# Altium schematic symbol library 74xx.SchLib: 276 symbols (part 1 of 3)
Pins are listed as number, name and electrical type; pins without a type are passive.

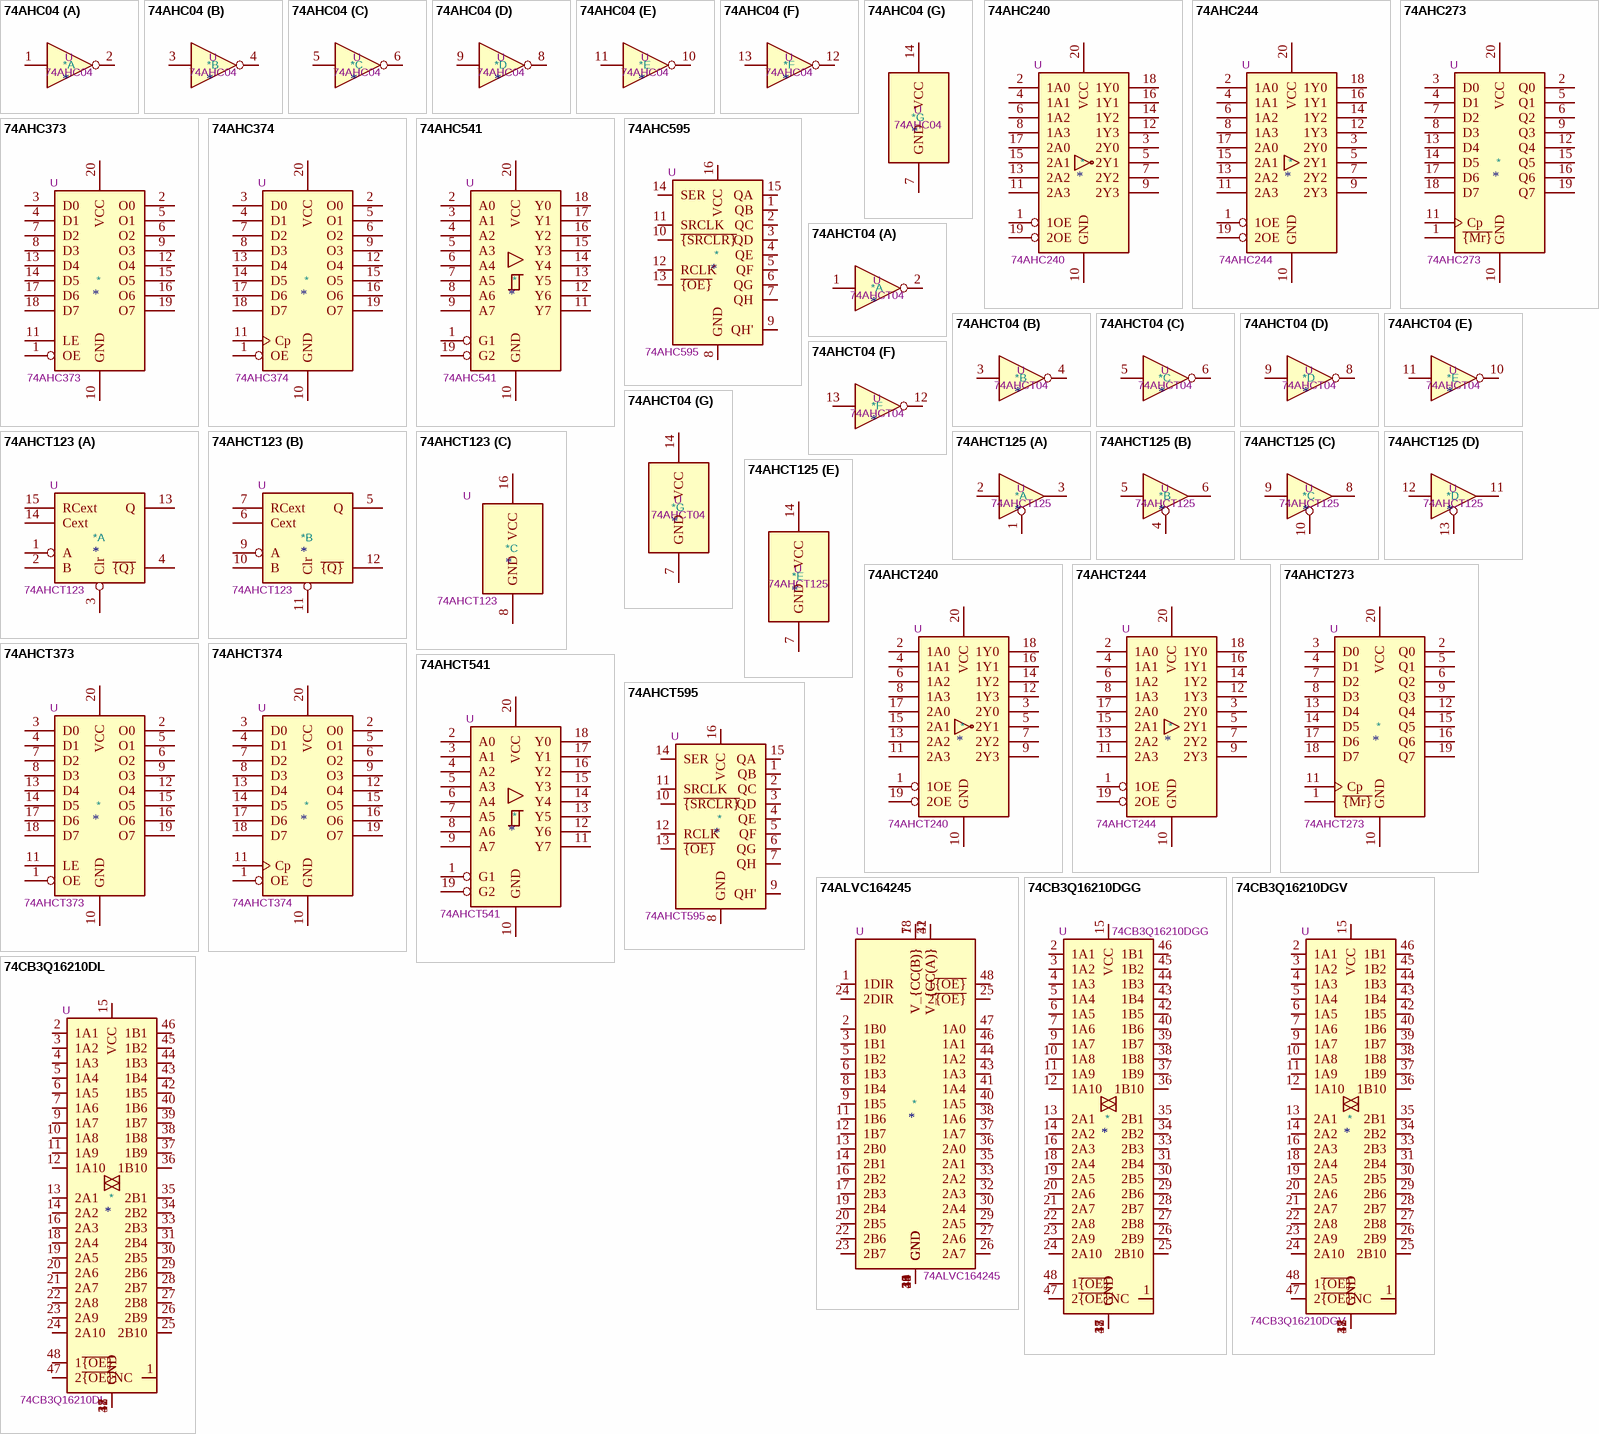
[diagram p0: symbols 74AHC04 to 74CB3Q16210DL]

## 74AHC04
designator *  value 74AHC04  Reference: U
Hex Inverter; ki_keywords: AHCMOS not inv; ki_fp_filters: DIP*W7.62mm* SSOP?14* TSSOP?14*; Datasheet: https://assets.nexperia.com/documents/data-sheet/74AHC_AHCT04.pdf; Description_: Hex Inverter
part A pins: 1, 2
part B pins: 3, 4
part C pins: 5, 6
part D pins: 8, 9
part E pins: 10, 11
part F pins: 12, 13
part G pins: 7 GND, 14 VCC

## 74AHC240
designator *  value 74AHC240  Reference: U
8-bit Buffer/Line Driver 3-state Inverting; ki_keywords: AHCMOS BUFFER 3State inv; ki_fp_filters: DIP*W7.62mm* SOIC*7.5x12.8mm*P1.27mm* TSSOP*4.4x6.5mm*P0.65mm* SSOP*4.4x6.5mm*P0.65mm*; Datasheet: https://www.ti.com/lit/ds/symlink/sn54ahc240.pdf; Description_: 8-bit Buffer/Line Driver 3-state Inverting
pins: 1 1OE, 2 1A0, 3 2Y0, 4 1A1, 5 2Y1, 6 1A2, 7 2Y2, 8 1A3, 9 2Y3, 10 GND, 11 2A3, 12 1Y3, 13 2A2, 14 1Y2, 15 2A1, 16 1Y1, 17 2A0, 18 1Y0, 19 2OE, 20 VCC

## 74AHC244
designator *  value 74AHC244  Reference: U
8-bit Buffer/Line Driver 3-state; ki_keywords: AHCMOS BUFFER 3State; ki_fp_filters: TSSOP*4.4x6.5mm*P0.65mm* SSOP*4.4x6.5mm*P0.65mm*; Datasheet: https://assets.nexperia.com/documents/data-sheet/74AHC_AHCT244.pdf; Description_: 8-bit Buffer/Line Driver 3-state
pins: 1 1OE, 2 1A0, 3 2Y0, 4 1A1, 5 2Y1, 6 1A2, 7 2Y2, 8 1A3, 9 2Y3, 10 GND, 11 2A3, 12 1Y3, 13 2A2, 14 1Y2, 15 2A1, 16 1Y1, 17 2A0, 18 1Y0, 19 2OE, 20 VCC

## 74AHC273
designator *  value 74AHC273  Reference: U
8-bit D Flip-Flop, reset; ki_keywords: AHCMOS DFF DFF8; ki_fp_filters: DIP?20* SO?20* SOIC?20*; Datasheet: https://assets.nexperia.com/documents/data-sheet/74AHC_AHCT273.pdf; Description_: 8-bit D Flip-Flop, reset
pins: 1 ~{{Mr}}, 2 Q0, 3 D0, 4 D1, 5 Q1, 6 Q2, 7 D2, 8 D3, 9 Q3, 10 GND, 11 Cp, 12 Q4, 13 D4, 14 D5, 15 Q5, 16 Q6, 17 D6, 18 D7, 19 Q7, 20 VCC

## 74AHC373
designator *  value 74AHC373  Reference: U
8-bit Latch, 3-state outputs; ki_keywords: AHCMOS REG DFF DFF8 LATCH; ki_fp_filters: DIP?20* SOIC?20* SO?20* SSOP?20* TSSOP?20*; Datasheet: https://assets.nexperia.com/documents/data-sheet/74AHC373.pdf; Description_: 8-bit Latch, 3-state outputs
pins: 1 OE, 2 O0, 3 D0, 4 D1, 5 O1, 6 O2, 7 D2, 8 D3, 9 O3, 10 GND, 11 LE, 12 O4, 13 D4, 14 D5, 15 O5, 16 O6, 17 D6, 18 D7, 19 O7, 20 VCC

## 74AHC374
designator *  value 74AHC374  Reference: U
8-bit Register, 3-state outputs; ki_keywords: AHCMOS DFF DFF8 REG 3State; ki_fp_filters: DIP?20* SOIC?20* SO?20*; Datasheet: https://assets.nexperia.com/documents/data-sheet/74AHC_AHCT374.pdf; Description_: 8-bit Register, 3-state outputs
pins: 1 OE, 2 O0, 3 D0, 4 D1, 5 O1, 6 O2, 7 D2, 8 D3, 9 O3, 10 GND, 11 Cp, 12 O4, 13 D4, 14 D5, 15 O5, 16 O6, 17 D6, 18 D7, 19 O7, 20 VCC

## 74AHC541
designator *  value 74AHC541  Reference: U
8-bit Buffer/Line Driver 3-state outputs; ki_keywords: TTL BUFFER 3State BUS; ki_fp_filters: DIP?20* SOIC*7.5x12.8mm*P1.27mm* TSSOP*4.4x6.5mm*P0.65mm* SSOP*4.4x6.5mm*P0.65mm*; Datasheet: https://www.ti.com/lit/ds/symlink/sn74ahc541.pdf; Description_: 8-bit Buffer/Line Driver 3-state outputs
pins: 1 G1, 2 A0, 3 A1, 4 A2, 5 A3, 6 A4, 7 A5, 8 A6, 9 A7, 10 GND, 11 Y7, 12 Y6, 13 Y5, 14 Y4, 15 Y3, 16 Y2, 17 Y1, 18 Y0, 19 G2, 20 VCC

## 74AHC595
designator *  value 74AHC595  Reference: U
8-bit serial in/out Shift Register 3-State Outputs; ki_keywords: AHCMOS SR 3State; ki_fp_filters: DIP*W7.62mm* SOIC*3.9x9.9mm*P1.27mm* TSSOP*4.4x5mm*P0.65mm* SOIC*5.3x10.2mm*P1.27mm* SOIC*7.5x10.3mm*P1.27mm*; Datasheet: https://assets.nexperia.com/documents/data-sheet/74AHC_AHCT595.pdf; Description_: 8-bit serial in/out Shift Register 3-State Outputs
pins: 1 QB, 2 QC, 3 QD, 4 QE, 5 QF, 6 QG, 7 QH, 8 GND, 9 QH', 10 ~{{SRCLR}}, 11 SRCLK, 12 RCLK, 13 ~{{OE}}, 14 SER, 15 QA, 16 VCC

## 74AHCT04
designator *  value 74AHCT04  Reference: U
Hex Inverter; ki_keywords: AHCTMOS not inv; ki_fp_filters: DIP*W7.62mm* SSOP?14* TSSOP?14*; Datasheet: https://assets.nexperia.com/documents/data-sheet/74AHC_AHCT04.pdf; Description_: Hex Inverter
part A pins: 1, 2
part B pins: 3, 4
part C pins: 5, 6
part D pins: 8, 9
part E pins: 10, 11
part F pins: 12, 13
part G pins: 7 GND, 14 VCC

## 74AHCT123
designator *  value 74AHCT123  Reference: U
Dual retriggerable monostable multivibrator; ki_keywords: TTL monostable, multivibrator; ki_fp_filters: DIP?16*; Datasheet: http://www.ti.com/lit/gpn/sn74ahct123a; Description_: Dual retriggerable monostable multivibrator
part A pins: 1 A, 2 B, 3 Clr, 4 ~{{Q}}, 13 Q, 14 Cext, 15 RCext
part B pins: 5 Q, 6 Cext, 7 RCext, 9 A, 10 B, 11 Clr, 12 ~{{Q}}
part C pins: 8 GND, 16 VCC

## 74AHCT125
designator *  value 74AHCT125  Reference: U
Quadruple Bus Buffer Gates With 3-State Outputs; ki_keywords: buffer 3State; ki_fp_filters: DIP*W7.62mm* SO14* SSOP?14* TSSOP?14* SOIC*3.9x8.7mm*P1.27mm*; Datasheet: https://www.ti.com/lit/ds/symlink/sn74ahct125.pdf; Description_: Quadruple Bus Buffer Gates With 3-State Outputs
part A pins: 1, 2, 3
part B pins: 4, 5, 6
part C pins: 8, 9, 10
part D pins: 11, 12, 13
part E pins: 7 GND, 14 VCC

## 74AHCT240
designator *  value 74AHCT240  Reference: U
8-bit Buffer/Line Driver 3-state Inverting; ki_keywords: AHCTMOS BUFFER 3State inv; ki_fp_filters: DIP*W7.62mm* SOIC*7.5x12.8mm*P1.27mm* TSSOP*4.4x6.5mm*P0.65mm* SSOP*4.4x6.5mm*P0.65mm*; Datasheet: https://assets.nexperia.com/documents/data-sheet/74AHCT240.pdf; Description_: 8-bit Buffer/Line Driver 3-state Inverting
pins: 1 1OE, 2 1A0, 3 2Y0, 4 1A1, 5 2Y1, 6 1A2, 7 2Y2, 8 1A3, 9 2Y3, 10 GND, 11 2A3, 12 1Y3, 13 2A2, 14 1Y2, 15 2A1, 16 1Y1, 17 2A0, 18 1Y0, 19 2OE, 20 VCC

## 74AHCT244
designator *  value 74AHCT244  Reference: U
8-bit Buffer/Line Driver 3-state; ki_keywords: AHCTMOS BUFFER 3State; ki_fp_filters: TSSOP*4.4x6.5mm*P0.65mm* SSOP*4.4x6.5mm*P0.65mm*; Datasheet: https://assets.nexperia.com/documents/data-sheet/74AHC_AHCT244.pdf; Description_: 8-bit Buffer/Line Driver 3-state
pins: 1 1OE, 2 1A0, 3 2Y0, 4 1A1, 5 2Y1, 6 1A2, 7 2Y2, 8 1A3, 9 2Y3, 10 GND, 11 2A3, 12 1Y3, 13 2A2, 14 1Y2, 15 2A1, 16 1Y1, 17 2A0, 18 1Y0, 19 2OE, 20 VCC

## 74AHCT273
designator *  value 74AHCT273  Reference: U
8-bit D Flip-Flop, reset; ki_keywords: AHCTMOS DFF DFF8; ki_fp_filters: DIP?20* SO?20* SOIC?20*; Datasheet: https://assets.nexperia.com/documents/data-sheet/74AHC_AHCT273.pdf; Description_: 8-bit D Flip-Flop, reset
pins: 1 ~{{Mr}}, 2 Q0, 3 D0, 4 D1, 5 Q1, 6 Q2, 7 D2, 8 D3, 9 Q3, 10 GND, 11 Cp, 12 Q4, 13 D4, 14 D5, 15 Q5, 16 Q6, 17 D6, 18 D7, 19 Q7, 20 VCC

## 74AHCT373
designator *  value 74AHCT373  Reference: U
8-bit Latch, 3-state outputs; ki_keywords: AHCTMOS REG DFF DFF8 LATCH; ki_fp_filters: DIP?20* SOIC?20* SO?20* SSOP?20* TSSOP?20*; Datasheet: https://www.ti.com/lit/ds/symlink/sn74ahct373.pdf; Description_: 8-bit Latch, 3-state outputs
pins: 1 OE, 2 O0, 3 D0, 4 D1, 5 O1, 6 O2, 7 D2, 8 D3, 9 O3, 10 GND, 11 LE, 12 O4, 13 D4, 14 D5, 15 O5, 16 O6, 17 D6, 18 D7, 19 O7, 20 VCC

## 74AHCT374
designator *  value 74AHCT374  Reference: U
8-bit Register, 3-state outputs; ki_keywords: AHCTMOS DFF DFF8 REG 3State; ki_fp_filters: DIP?20* SOIC?20* SO?20*; Datasheet: https://assets.nexperia.com/documents/data-sheet/74AHC_AHCT374.pdf; Description_: 8-bit Register, 3-state outputs
pins: 1 OE, 2 O0, 3 D0, 4 D1, 5 O1, 6 O2, 7 D2, 8 D3, 9 O3, 10 GND, 11 Cp, 12 O4, 13 D4, 14 D5, 15 O5, 16 O6, 17 D6, 18 D7, 19 O7, 20 VCC

## 74AHCT541
designator *  value 74AHCT541  Reference: U
8-bit Buffer/Line Driver 3-state outputs; ki_keywords: TTL BUFFER 3State BUS; ki_fp_filters: DIP?20* SOIC*7.5x12.8mm*P1.27mm* TSSOP*4.4x6.5mm*P0.65mm* SSOP*4.4x6.5mm*P0.65mm*; Datasheet: https://www.ti.com/lit/ds/symlink/sn74ahct541.pdf; Description_: 8-bit Buffer/Line Driver 3-state outputs
pins: 1 G1, 2 A0, 3 A1, 4 A2, 5 A3, 6 A4, 7 A5, 8 A6, 9 A7, 10 GND, 11 Y7, 12 Y6, 13 Y5, 14 Y4, 15 Y3, 16 Y2, 17 Y1, 18 Y0, 19 G2, 20 VCC

## 74AHCT595
designator *  value 74AHCT595  Reference: U
8-bit serial in/out Shift Register 3-State Outputs; ki_keywords: AHCTMOS SR 3State; ki_fp_filters: DIP*W7.62mm* SOIC*3.9x9.9mm*P1.27mm* TSSOP*4.4x5mm*P0.65mm* SOIC*5.3x10.2mm*P1.27mm* SOIC*7.5x10.3mm*P1.27mm*; Datasheet: https://assets.nexperia.com/documents/data-sheet/74AHC_AHCT595.pdf; Description_: 8-bit serial in/out Shift Register 3-State Outputs
pins: 1 QB, 2 QC, 3 QD, 4 QE, 5 QF, 6 QG, 7 QH, 8 GND, 9 QH', 10 ~{{SRCLR}}, 11 SRCLK, 12 RCLK, 13 ~{{OE}}, 14 SER, 15 QA, 16 VCC

## 74ALVC164245
designator *  value 74ALVC164245  Reference: U
16-Bit 2.5V to 3.3V or 3.3V to 5V Level-Shifting Transceiver With 3-State Outputs, TSSOP-48; ki_fp_filters: TSSOP*6.1x12.5mm*P0.5mm*; Footprint: Package_SO:TSSOP-48_6.1x12.5mm_P0.5mm; Datasheet: https://assets.nexperia.com/documents/data-sheet/74ALVC164245.pdf; Description_: 16-Bit 2.5V to 3.3V or 3.3V to 5V Level-Shifting Transceiver With 3-State Outputs, TSSOP-48; ki_keywords: transceiver
pins: 1 1DIR, 2 1B0, 3 1B1, 4 GND, 5 1B2, 6 1B3, 7 V_{CC(B)}, 8 1B4, 9 1B5, 10 GND, 11 1B6, 12 1B7, 13 2B0, 14 2B1, 15 GND, 16 2B2, 17 2B3, 18 V_{CC(B)}, 19 2B4, 20 2B5, 21 GND, 22 2B6, 23 2B7, 24 2DIR, 25 2~{{OE}}, 26 2A7, 27 2A6, 28 GND, 29 2A5, 30 2A4, 31 V_{CC(A)}, 32 2A3, 33 2A2, 34 GND, 35 2A1, 36 2A0, 37 1A7, 38 1A6, 39 GND, 40 1A5, 41 1A4, 42 V_{CC(A)}, 43 1A3, 44 1A2, 45 GND, 46 1A1, 47 1A0, 48 1~{{OE}}

## 74CB3Q16210DGG
designator *  value 74CB3Q16210DGG  Reference: U
20-bit FET bus switch with 10-bit output enables, TSSOP-48; ki_keywords: bus transmission gates fet switch bidirectional; ki_fp_filters: TSSOP*6.1x12.5mm*P0.5mm*; Footprint: Package_SO:TSSOP-48_6.1x12.5mm_P0.5mm; Datasheet: https://www.ti.com/lit/ds/symlink/sn74cb3q16210.pdf; Description_: 20-bit FET bus switch with 10-bit output enables, TSSOP-48
pins: 1 NC, 2 1A1, 3 1A2, 4 1A3, 5 1A4, 6 1A5, 7 1A6, 8 GND, 9 1A7, 10 1A8, 11 1A9, 12 1A10, 13 2A1, 14 2A2, 15 VCC, 16 2A3, 17 GND, 18 2A4, 19 2A5, 20 2A6, 21 2A7, 22 2A8, 23 2A9, 24 2A10, 25 2B10, 26 2B9, 27 2B8, 28 2B7, 29 2B6, 30 2B5, 31 2B4, 32 GND, 33 2B3, 34 2B2, 35 2B1, 36 1B10, 37 1B9, 38 1B8, 39 1B7, 40 1B6, 41 GND, 42 1B5, 43 1B4, 44 1B3, 45 1B2, 46 1B1, 47 2~{{OE}}, 48 1~{{OE}}

## 74CB3Q16210DGV
designator *  value 74CB3Q16210DGV  Reference: U
20-bit FET bus switch with 10-bit output enables, TVSOP-48; ki_keywords: bus transmission gates fet switch bidirectional; ki_fp_filters: TSSOP*4.4x9.7mm*P0.4mm*; Footprint: Package_SO:TSSOP-48_4.4x9.7mm_P0.4mm; Datasheet: https://www.ti.com/lit/ds/symlink/sn74cb3q16210.pdf; Description_: 20-bit FET bus switch with 10-bit output enables, TVSOP-48
pins: 1 NC, 2 1A1, 3 1A2, 4 1A3, 5 1A4, 6 1A5, 7 1A6, 8 GND, 9 1A7, 10 1A8, 11 1A9, 12 1A10, 13 2A1, 14 2A2, 15 VCC, 16 2A3, 17 GND, 18 2A4, 19 2A5, 20 2A6, 21 2A7, 22 2A8, 23 2A9, 24 2A10, 25 2B10, 26 2B9, 27 2B8, 28 2B7, 29 2B6, 30 2B5, 31 2B4, 32 GND, 33 2B3, 34 2B2, 35 2B1, 36 1B10, 37 1B9, 38 1B8, 39 1B7, 40 1B6, 41 GND, 42 1B5, 43 1B4, 44 1B3, 45 1B2, 46 1B1, 47 2~{{OE}}, 48 1~{{OE}}

## 74CB3Q16210DL
designator *  value 74CB3Q16210DL  Reference: U
20-bit FET bus switch with 10-bit output enables, SSOP-48; ki_keywords: bus transmission gates fet switch bidirectional; ki_fp_filters: SSOP*7.5x15.9mm*P0.635mm*; Footprint: Package_SO:SSOP-48_7.5x15.9mm_P0.635mm; Datasheet: https://www.ti.com/lit/ds/symlink/sn74cb3q16210.pdf; Description_: 20-bit FET bus switch with 10-bit output enables, SSOP-48
pins: 1 NC, 2 1A1, 3 1A2, 4 1A3, 5 1A4, 6 1A5, 7 1A6, 8 GND, 9 1A7, 10 1A8, 11 1A9, 12 1A10, 13 2A1, 14 2A2, 15 VCC, 16 2A3, 17 GND, 18 2A4, 19 2A5, 20 2A6, 21 2A7, 22 2A8, 23 2A9, 24 2A10, 25 2B10, 26 2B9, 27 2B8, 28 2B7, 29 2B6, 30 2B5, 31 2B4, 32 GND, 33 2B3, 34 2B2, 35 2B1, 36 1B10, 37 1B9, 38 1B8, 39 1B7, 40 1B6, 41 GND, 42 1B5, 43 1B4, 44 1B3, 45 1B2, 46 1B1, 47 2~{{OE}}, 48 1~{{OE}}

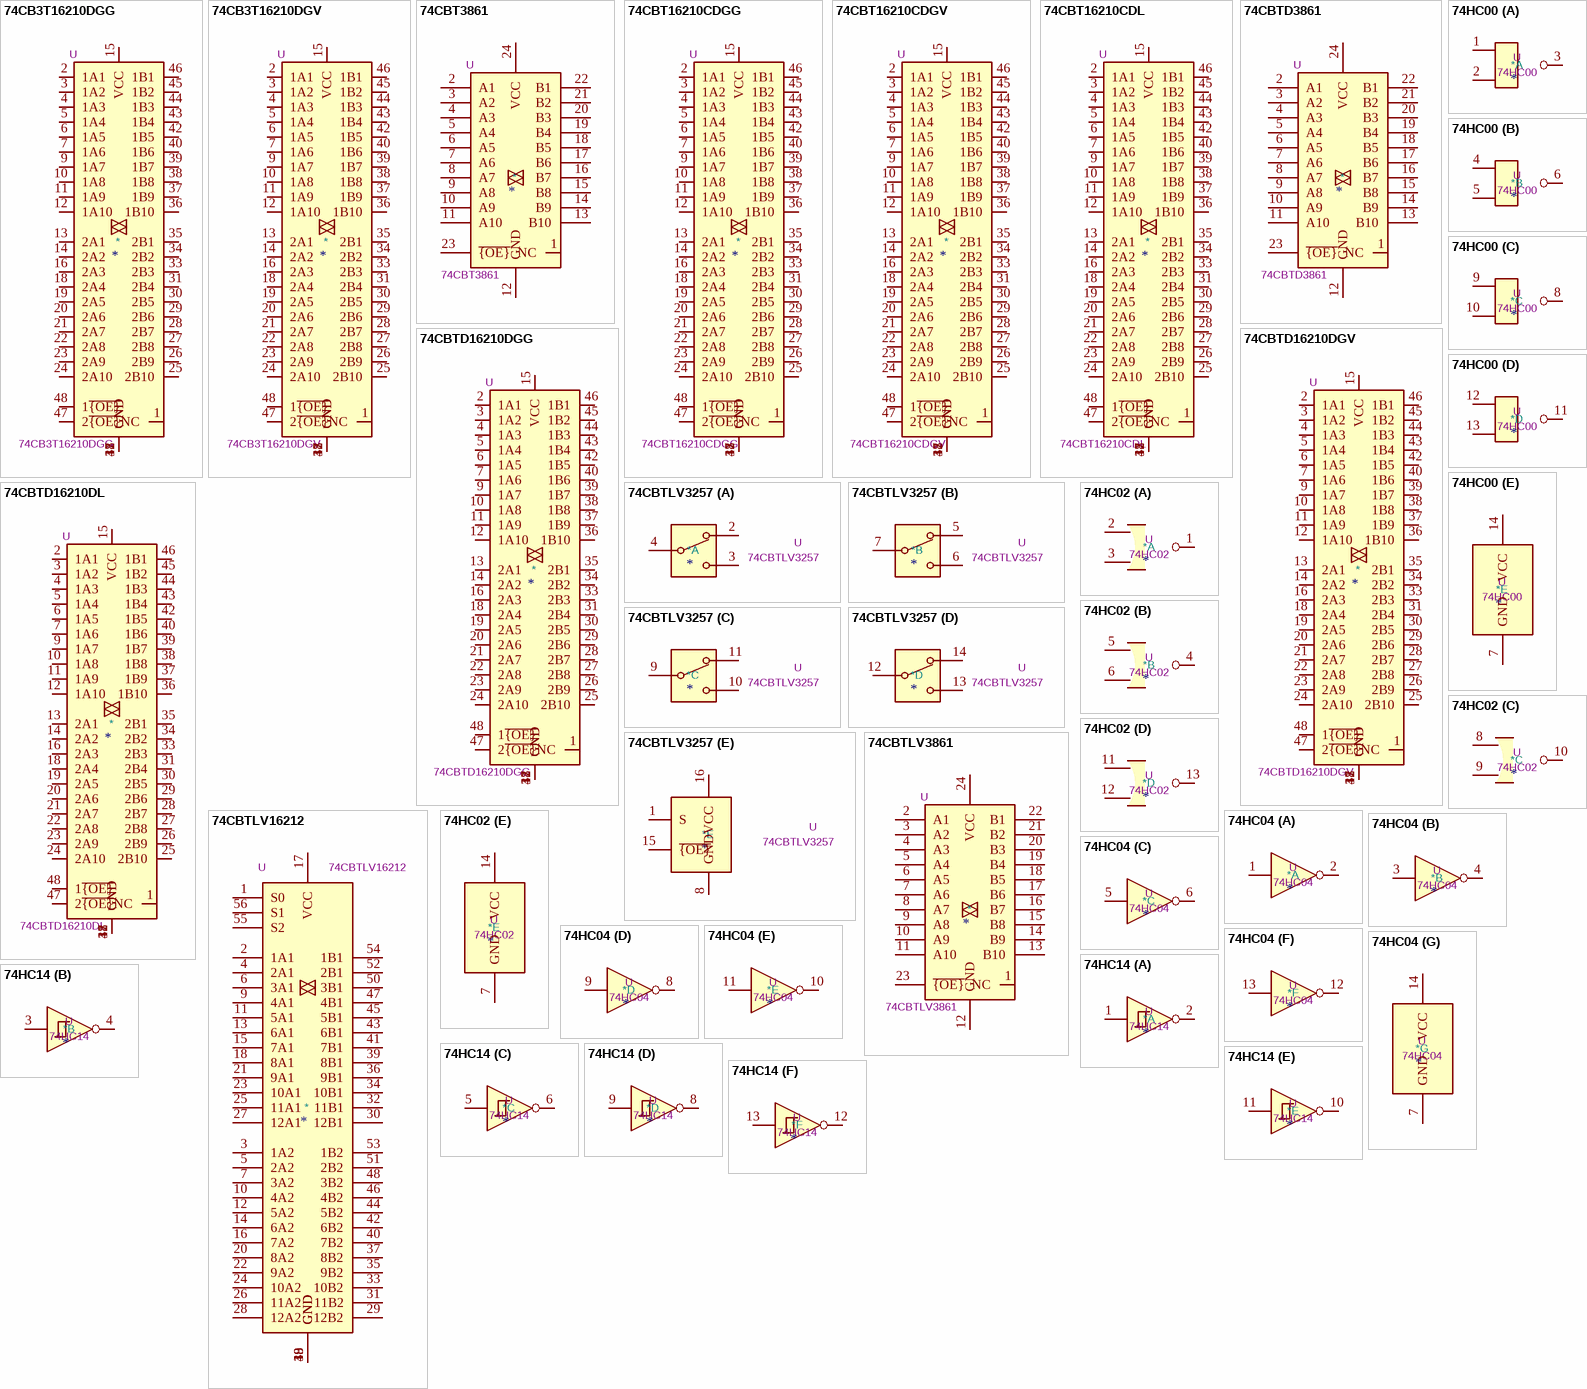
[diagram p1: symbols 74CB3T16210DGG to 74HC14]

## 74CB3T16210DGG
designator *  value 74CB3T16210DGG  Reference: U
20-bit FET bus switch with 10-bit output enables, TSSOP-48; ki_keywords: bus transmission gates fet switch bidirectional; ki_fp_filters: TSSOP*6.1x12.5mm*P0.5mm*; Footprint: Package_SO:TSSOP-48_6.1x12.5mm_P0.5mm; Datasheet: https://www.ti.com/lit/ds/symlink/sn74cb3t16210.pdf; Description_: 20-bit FET bus switch with 10-bit output enables, TSSOP-48
pins: 1 NC, 2 1A1, 3 1A2, 4 1A3, 5 1A4, 6 1A5, 7 1A6, 8 GND, 9 1A7, 10 1A8, 11 1A9, 12 1A10, 13 2A1, 14 2A2, 15 VCC, 16 2A3, 17 GND, 18 2A4, 19 2A5, 20 2A6, 21 2A7, 22 2A8, 23 2A9, 24 2A10, 25 2B10, 26 2B9, 27 2B8, 28 2B7, 29 2B6, 30 2B5, 31 2B4, 32 GND, 33 2B3, 34 2B2, 35 2B1, 36 1B10, 37 1B9, 38 1B8, 39 1B7, 40 1B6, 41 GND, 42 1B5, 43 1B4, 44 1B3, 45 1B2, 46 1B1, 47 2~{{OE}}, 48 1~{{OE}}

## 74CB3T16210DGV
designator *  value 74CB3T16210DGV  Reference: U
20-bit FET bus switch with 10-bit output enables, TVSOP-48; ki_keywords: bus transmission gates fet switch bidirectional; ki_fp_filters: TSSOP*4.4x9.7mm*P0.4mm*; Footprint: Package_SO:TSSOP-48_4.4x9.7mm_P0.4mm; Datasheet: https://www.ti.com/lit/ds/symlink/sn74cb3t16210.pdf; Description_: 20-bit FET bus switch with 10-bit output enables, TVSOP-48
pins: 1 NC, 2 1A1, 3 1A2, 4 1A3, 5 1A4, 6 1A5, 7 1A6, 8 GND, 9 1A7, 10 1A8, 11 1A9, 12 1A10, 13 2A1, 14 2A2, 15 VCC, 16 2A3, 17 GND, 18 2A4, 19 2A5, 20 2A6, 21 2A7, 22 2A8, 23 2A9, 24 2A10, 25 2B10, 26 2B9, 27 2B8, 28 2B7, 29 2B6, 30 2B5, 31 2B4, 32 GND, 33 2B3, 34 2B2, 35 2B1, 36 1B10, 37 1B9, 38 1B8, 39 1B7, 40 1B6, 41 GND, 42 1B5, 43 1B4, 44 1B3, 45 1B2, 46 1B1, 47 2~{{OE}}, 48 1~{{OE}}

## 74CBT3861
designator *  value 74CBT3861  Reference: U
10-bit FET bus switch; ki_fp_filters: DIP?24*; Datasheet: https://www.ti.com/lit/ds/symlink/sn74cbt3861.pdf; Description_: 10-bit FET bus switch; ki_keywords: bus
pins: 1 NC, 2 A1, 3 A2, 4 A3, 5 A4, 6 A5, 7 A6, 8 A7, 9 A8, 10 A9, 11 A10, 12 GND, 13 B10, 14 B9, 15 B8, 16 B7, 17 B6, 18 B5, 19 B4, 20 B3, 21 B2, 22 B1, 23 ~{{OE}}, 24 VCC

## 74CBT16210CDGG
designator *  value 74CBT16210CDGG  Reference: U
20-bit FET bus switch with 10-bit output enables, TSSOP-48; ki_keywords: bus transmission gates fet switch bidirectional; ki_fp_filters: TSSOP*6.1x12.5mm*P0.5mm*; Footprint: Package_SO:TSSOP-48_6.1x12.5mm_P0.5mm; Datasheet: https://www.ti.com/lit/ds/symlink/sn74cbt16210c.pdf; Description_: 20-bit FET bus switch with 10-bit output enables, TSSOP-48
pins: 1 NC, 2 1A1, 3 1A2, 4 1A3, 5 1A4, 6 1A5, 7 1A6, 8 GND, 9 1A7, 10 1A8, 11 1A9, 12 1A10, 13 2A1, 14 2A2, 15 VCC, 16 2A3, 17 GND, 18 2A4, 19 2A5, 20 2A6, 21 2A7, 22 2A8, 23 2A9, 24 2A10, 25 2B10, 26 2B9, 27 2B8, 28 2B7, 29 2B6, 30 2B5, 31 2B4, 32 GND, 33 2B3, 34 2B2, 35 2B1, 36 1B10, 37 1B9, 38 1B8, 39 1B7, 40 1B6, 41 GND, 42 1B5, 43 1B4, 44 1B3, 45 1B2, 46 1B1, 47 2~{{OE}}, 48 1~{{OE}}

## 74CBT16210CDGV
designator *  value 74CBT16210CDGV  Reference: U
20-bit FET bus switch with 10-bit output enables, TVSOP-48; ki_keywords: bus transmission gates fet switch bidirectional; ki_fp_filters: TSSOP*4.4x9.7mm*P0.4mm*; Footprint: Package_SO:TSSOP-48_4.4x9.7mm_P0.4mm; Datasheet: https://www.ti.com/lit/ds/symlink/sn74cbt16210c.pdf; Description_: 20-bit FET bus switch with 10-bit output enables, TVSOP-48
pins: 1 NC, 2 1A1, 3 1A2, 4 1A3, 5 1A4, 6 1A5, 7 1A6, 8 GND, 9 1A7, 10 1A8, 11 1A9, 12 1A10, 13 2A1, 14 2A2, 15 VCC, 16 2A3, 17 GND, 18 2A4, 19 2A5, 20 2A6, 21 2A7, 22 2A8, 23 2A9, 24 2A10, 25 2B10, 26 2B9, 27 2B8, 28 2B7, 29 2B6, 30 2B5, 31 2B4, 32 GND, 33 2B3, 34 2B2, 35 2B1, 36 1B10, 37 1B9, 38 1B8, 39 1B7, 40 1B6, 41 GND, 42 1B5, 43 1B4, 44 1B3, 45 1B2, 46 1B1, 47 2~{{OE}}, 48 1~{{OE}}

## 74CBT16210CDL
designator *  value 74CBT16210CDL  Reference: U
20-bit FET bus switch with 10-bit output enables, SSOP-48; ki_keywords: bus transmission gates fet switch bidirectional; ki_fp_filters: SSOP*7.5x15.9mm*P0.635mm*; Footprint: Package_SO:SSOP-48_7.5x15.9mm_P0.635mm; Datasheet: https://www.ti.com/lit/ds/symlink/sn74cbt16210c.pdf; Description_: 20-bit FET bus switch with 10-bit output enables, SSOP-48
pins: 1 NC, 2 1A1, 3 1A2, 4 1A3, 5 1A4, 6 1A5, 7 1A6, 8 GND, 9 1A7, 10 1A8, 11 1A9, 12 1A10, 13 2A1, 14 2A2, 15 VCC, 16 2A3, 17 GND, 18 2A4, 19 2A5, 20 2A6, 21 2A7, 22 2A8, 23 2A9, 24 2A10, 25 2B10, 26 2B9, 27 2B8, 28 2B7, 29 2B6, 30 2B5, 31 2B4, 32 GND, 33 2B3, 34 2B2, 35 2B1, 36 1B10, 37 1B9, 38 1B8, 39 1B7, 40 1B6, 41 GND, 42 1B5, 43 1B4, 44 1B3, 45 1B2, 46 1B1, 47 2~{{OE}}, 48 1~{{OE}}

## 74CBTD3861
designator *  value 74CBTD3861  Reference: U
10-bit FET Bus switch; ki_fp_filters: DIP?24*; Datasheet: https://www.ti.com/lit/ds/symlink/sn74cbtd3861.pdf; Description_: 10-bit FET Bus switch; ki_keywords: bus
pins: 1 NC, 2 A1, 3 A2, 4 A3, 5 A4, 6 A5, 7 A6, 8 A7, 9 A8, 10 A9, 11 A10, 12 GND, 13 B10, 14 B9, 15 B8, 16 B7, 17 B6, 18 B5, 19 B4, 20 B3, 21 B2, 22 B1, 23 ~{{OE}}, 24 VCC

## 74CBTD16210DGG
designator *  value 74CBTD16210DGG  Reference: U
20-bit FET bus switch with 10-bit output enables, TSSOP-48; ki_keywords: bus transmission gates fet switch bidirectional; ki_fp_filters: TSSOP*6.1x12.5mm*P0.5mm*; Footprint: Package_SO:TSSOP-48_6.1x12.5mm_P0.5mm; Datasheet: https://www.ti.com/lit/ds/symlink/sn74cbtd16210.pdf; Description_: 20-bit FET bus switch with 10-bit output enables, TSSOP-48
pins: 1 NC, 2 1A1, 3 1A2, 4 1A3, 5 1A4, 6 1A5, 7 1A6, 8 GND, 9 1A7, 10 1A8, 11 1A9, 12 1A10, 13 2A1, 14 2A2, 15 VCC, 16 2A3, 17 GND, 18 2A4, 19 2A5, 20 2A6, 21 2A7, 22 2A8, 23 2A9, 24 2A10, 25 2B10, 26 2B9, 27 2B8, 28 2B7, 29 2B6, 30 2B5, 31 2B4, 32 GND, 33 2B3, 34 2B2, 35 2B1, 36 1B10, 37 1B9, 38 1B8, 39 1B7, 40 1B6, 41 GND, 42 1B5, 43 1B4, 44 1B3, 45 1B2, 46 1B1, 47 2~{{OE}}, 48 1~{{OE}}

## 74CBTD16210DGV
designator *  value 74CBTD16210DGV  Reference: U
20-bit FET bus switch with 10-bit output enables, TVSOP-48; ki_keywords: bus transmission gates fet switch bidirectional; ki_fp_filters: TSSOP*4.4x9.7mm*P0.4mm*; Footprint: Package_SO:TSSOP-48_4.4x9.7mm_P0.4mm; Datasheet: https://www.ti.com/lit/ds/symlink/sn74cbtd16210.pdf; Description_: 20-bit FET bus switch with 10-bit output enables, TVSOP-48
pins: 1 NC, 2 1A1, 3 1A2, 4 1A3, 5 1A4, 6 1A5, 7 1A6, 8 GND, 9 1A7, 10 1A8, 11 1A9, 12 1A10, 13 2A1, 14 2A2, 15 VCC, 16 2A3, 17 GND, 18 2A4, 19 2A5, 20 2A6, 21 2A7, 22 2A8, 23 2A9, 24 2A10, 25 2B10, 26 2B9, 27 2B8, 28 2B7, 29 2B6, 30 2B5, 31 2B4, 32 GND, 33 2B3, 34 2B2, 35 2B1, 36 1B10, 37 1B9, 38 1B8, 39 1B7, 40 1B6, 41 GND, 42 1B5, 43 1B4, 44 1B3, 45 1B2, 46 1B1, 47 2~{{OE}}, 48 1~{{OE}}

## 74CBTD16210DL
designator *  value 74CBTD16210DL  Reference: U
20-bit FET bus switch with 10-bit output enables, SSOP-48; ki_keywords: bus transmission gates fet switch bidirectional; ki_fp_filters: SSOP*7.5x15.9mm*P0.635mm*; Footprint: Package_SO:SSOP-48_7.5x15.9mm_P0.635mm; Datasheet: https://www.ti.com/lit/ds/symlink/sn74cbtd16210.pdf; Description_: 20-bit FET bus switch with 10-bit output enables, SSOP-48
pins: 1 NC, 2 1A1, 3 1A2, 4 1A3, 5 1A4, 6 1A5, 7 1A6, 8 GND, 9 1A7, 10 1A8, 11 1A9, 12 1A10, 13 2A1, 14 2A2, 15 VCC, 16 2A3, 17 GND, 18 2A4, 19 2A5, 20 2A6, 21 2A7, 22 2A8, 23 2A9, 24 2A10, 25 2B10, 26 2B9, 27 2B8, 28 2B7, 29 2B6, 30 2B5, 31 2B4, 32 GND, 33 2B3, 34 2B2, 35 2B1, 36 1B10, 37 1B9, 38 1B8, 39 1B7, 40 1B6, 41 GND, 42 1B5, 43 1B4, 44 1B3, 45 1B2, 46 1B1, 47 2~{{OE}}, 48 1~{{OE}}

## 74CBTLV3257
designator *  value 74CBTLV3257  Reference: U
Quad 1:2 FET Multiplexer/Demultiplexer, Low-Voltage; ki_keywords: mux demux low-voltage; ki_fp_filters: SSOP*3.9x4.9mm*P0.635mm* TSSOP*4.4x5mm*P0.65mm* TVSOP*4.4x3.6mm*P0.4mm* SOIC*3.9x9.9mm*P1.27mm*; Datasheet: http://www.ti.com/lit/ds/symlink/sn74cbtlv3257.pdf; Description_: Quad 1:2 FET Multiplexer/Demultiplexer, Low-Voltage
part A pins: 2, 3, 4
part B pins: 5, 6, 7
part C pins: 9, 10, 11
part D pins: 12, 13, 14
part E pins: 1 S, 8 GND, 15 ~{{OE}}, 16 VCC

## 74CBTLV3861
designator *  value 74CBTLV3861  Reference: U
Low-voltage 10-bit FET bus switch; ki_fp_filters: DIP?24*; Datasheet: http://www.ti.com/lit/gpn/sn74cbtlv3861; Description_: Low-voltage 10-bit FET bus switch; ki_keywords: bus
pins: 1 NC, 2 A1, 3 A2, 4 A3, 5 A4, 6 A5, 7 A6, 8 A7, 9 A8, 10 A9, 11 A10, 12 GND, 13 B10, 14 B9, 15 B8, 16 B7, 17 B6, 18 B5, 19 B4, 20 B3, 21 B2, 22 B1, 23 ~{{OE}}, 24 VCC

## 74CBTLV16212
designator *  value 74CBTLV16212  Reference: U
Low-voltage 24-bit FET Bus-exchange switch; ki_keywords: bus; ki_fp_filters: SSOP* TSSOP*; Datasheet: https://www.ti.com/lit/ds/symlink/sn74cbtlv16212.pdf; Description_: Low-voltage 24-bit FET Bus-exchange switch
pins: 1 S0, 2 1A1, 3 1A2, 4 2A1, 5 2A2, 6 3A1, 7 3A2, 8 GND, 9 4A1, 10 4A2, 11 5A1, 12 5A2, 13 6A1, 14 6A2, 15 7A1, 16 7A2, 17 VCC, 18 8A1, 19 GND, 20 8A2, 21 9A1, 22 9A2, 23 10A1, 24 10A2, 25 11A1, 26 11A2, 27 12A1, 28 12A2, 29 12B2, 30 12B1, 31 11B2, 32 11B1, 33 10B2, 34 10B1, 35 9B2, 36 9B1, 37 8B2, 38 GND, 39 8B1, 40 7B2, 41 7B1, 42 6B2, 43 6B1, 44 5B2, 45 5B1, 46 4B2, 47 4B1, 48 3B2, 49 GND, 50 3B1, 51 2B2, 52 2B1, 53 1B2, 54 1B1, 55 S2, 56 S1

## 74HC00
designator *  value 74HC00  Reference: U
quad 2-input NAND gate; ki_keywords: HCMOS nand 2-input; ki_fp_filters: DIP*W7.62mm* SO14*; Datasheet: http://www.ti.com/lit/gpn/sn74hc00; Description_: quad 2-input NAND gate
part A pins: 1, 2, 3
part B pins: 4, 5, 6
part C pins: 8, 9, 10
part D pins: 11, 12, 13
part E pins: 7 GND, 14 VCC
1 alternate drawing of the same symbol

## 74HC02
designator *  value 74HC02  Reference: U
quad 2-input NOR gate; ki_keywords: HCMOS Nor2; ki_fp_filters: SO14* DIP*W7.62mm*; Datasheet: http://www.ti.com/lit/gpn/sn74hc02; Description_: quad 2-input NOR gate
part A pins: 1, 2, 3
part B pins: 4, 5, 6
part C pins: 8, 9, 10
part D pins: 11, 12, 13
part E pins: 7 GND, 14 VCC
1 alternate drawing of the same symbol

## 74HC04
designator *  value 74HC04  Reference: U
Hex Inverter; ki_keywords: HCMOS not inv; ki_fp_filters: DIP*W7.62mm* SSOP?14* TSSOP?14*; Datasheet: https://assets.nexperia.com/documents/data-sheet/74HC_HCT04.pdf; Description_: Hex Inverter
part A pins: 1, 2
part B pins: 3, 4
part C pins: 5, 6
part D pins: 8, 9
part E pins: 10, 11
part F pins: 12, 13
part G pins: 7 GND, 14 VCC

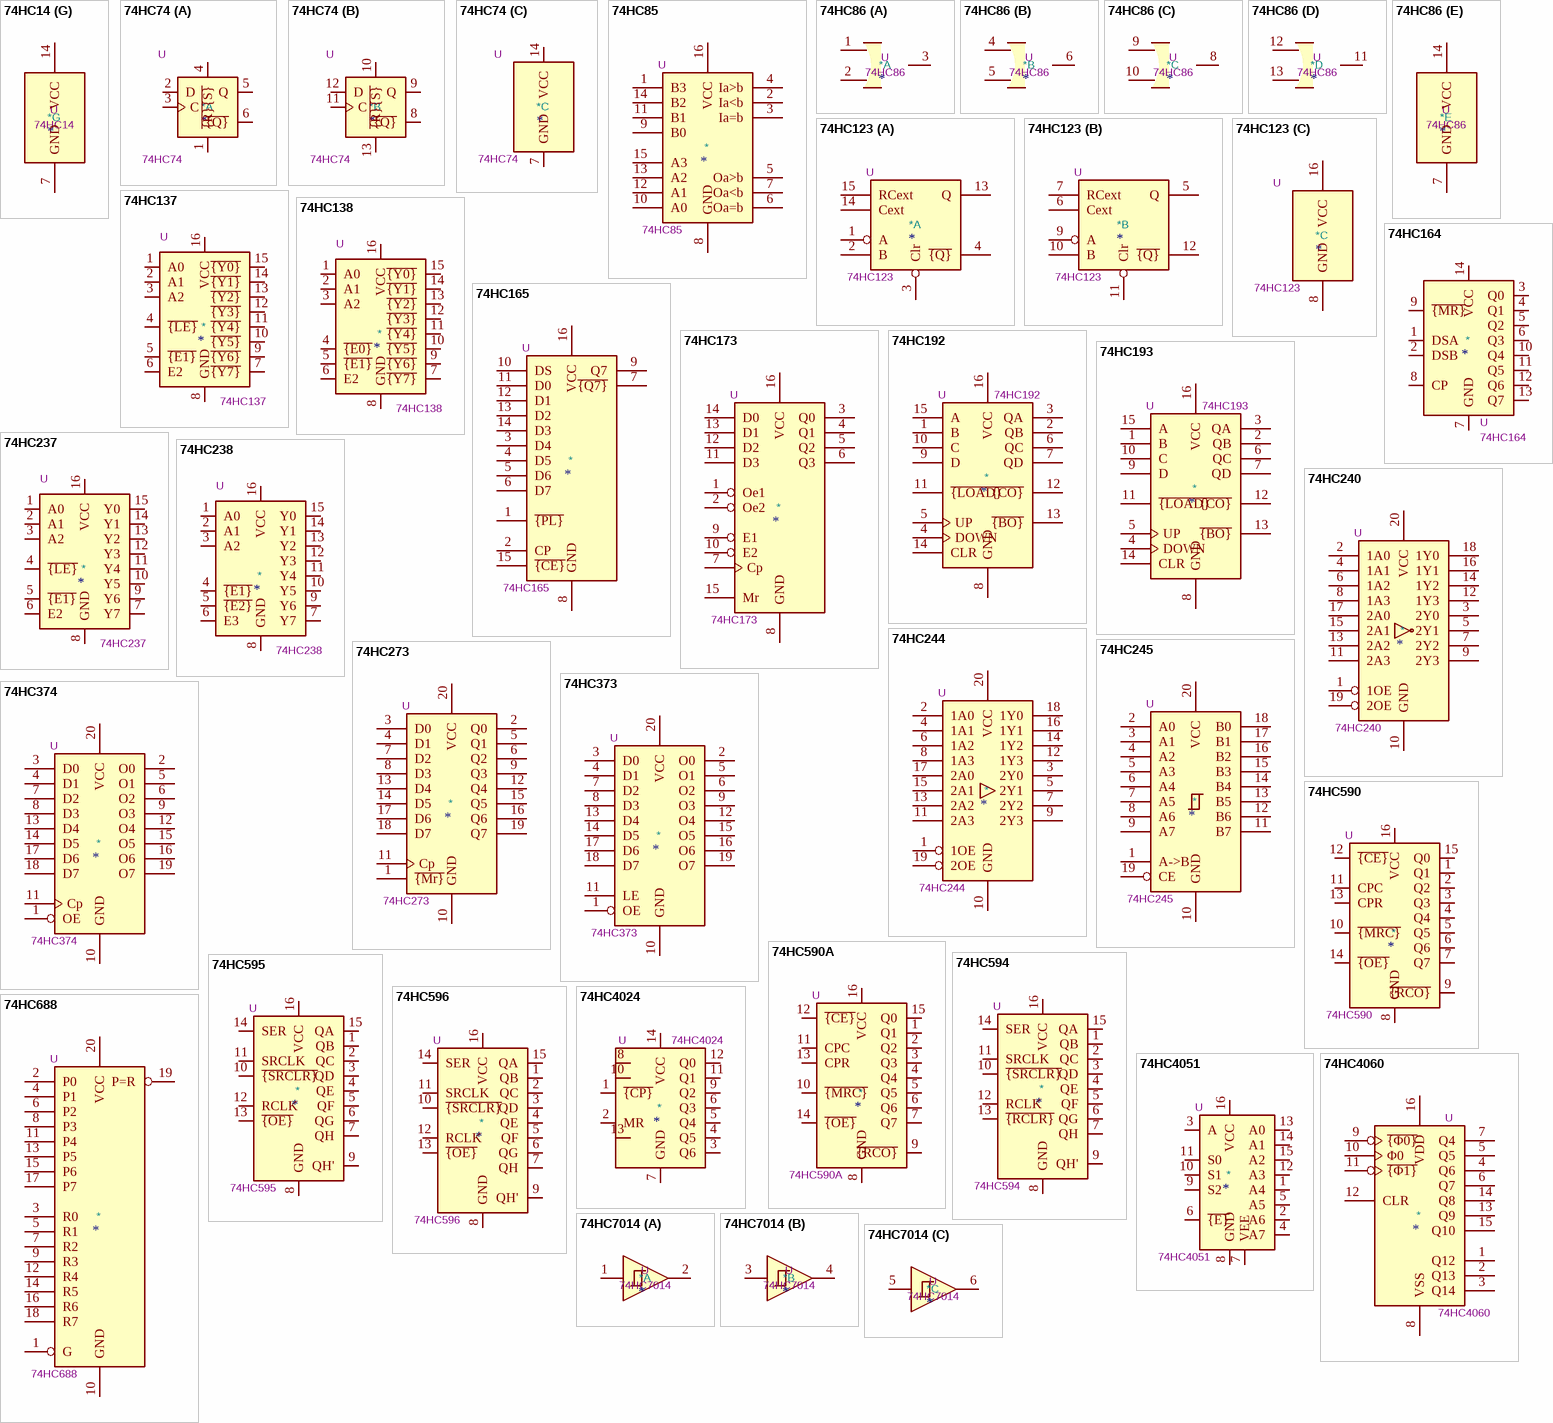
[diagram p2: symbols 74HC14 to 74HC7014]

## 74HC14
designator *  value 74HC14  Reference: U
Hex inverter schmitt trigger; ki_keywords: HCMOS not inverter; ki_fp_filters: DIP*W7.62mm*; Datasheet: http://www.ti.com/lit/gpn/sn74HC14; Description_: Hex inverter schmitt trigger
part A pins: 1, 2
part B pins: 3, 4
part C pins: 5, 6
part D pins: 8, 9
part E pins: 10, 11
part F pins: 12, 13
part G pins: 7 GND, 14 VCC

## 74HC74
designator *  value 74HC74  Reference: U
Dual D Flip-flop, Set & Reset; ki_keywords: TTL DFF; ki_fp_filters: DIP*W7.62mm*; Datasheet: 74xx/74hc_hct74.pdf; Description_: Dual D Flip-flop, Set & Reset
part A pins: 1 ~{{R}}, 2 D, 3 C, 4 ~{{S}}, 5 Q, 6 ~{{Q}}
part B pins: 8 ~{{Q}}, 9 Q, 10 ~{{S}}, 11 C, 12 D, 13 ~{{R}}
part C pins: 7 GND, 14 VCC

## 74HC85
designator *  value 74HC85  Reference: U
4-bit Comparator; ki_keywords: TTL COMP ARITH; ki_fp_filters: DIP?16* TSSOP*4.4*5mm*P0.65mm* SO*3.9*9.9mm*P1.27mm* SO*5.3*10.2mm*P1.27mm*; Datasheet: https://assets.nexperia.com/documents/data-sheet/74HC_HCT85.pdf; Description_: 4-bit Comparator
pins: 1 B3, 2 Ia<b, 3 Ia=b, 4 Ia>b, 5 Oa>b, 6 Oa=b, 7 Oa<b, 8 GND, 9 B0, 10 A0, 11 B1, 12 A1, 13 A2, 14 B2, 15 A3, 16 VCC

## 74HC86
designator *  value 74HC86  Reference: U
Quad 2-input XOR; ki_keywords: TTL XOR2; ki_fp_filters: DIP*W7.62mm*; Datasheet: http://www.ti.com/lit/gpn/sn74HC86; Description_: Quad 2-input XOR
part A pins: 1, 2, 3
part B pins: 4, 5, 6
part C pins: 8, 9, 10
part D pins: 11, 12, 13
part E pins: 7 GND, 14 VCC

## 74HC123
designator *  value 74HC123  Reference: U
Dual retriggerable monostable multivibrator; ki_keywords: TTL monostable, multivibrator; ki_fp_filters: DIP?16*; Datasheet: https://assets.nexperia.com/documents/data-sheet/74HC_HCT123.pdf; Description_: Dual retriggerable monostable multivibrator
part A pins: 1 A, 2 B, 3 Clr, 4 ~{{Q}}, 13 Q, 14 Cext, 15 RCext
part B pins: 5 Q, 6 Cext, 7 RCext, 9 A, 10 B, 11 Clr, 12 ~{{Q}}
part C pins: 8 GND, 16 VCC

## 74HC137
designator *  value 74HC137  Reference: U
3-to-8 line decoder/multiplexer with address latches, DIP-16/SOIC-16/SSOP-16; ki_keywords: demux; ki_fp_filters: DIP*W7.62mm* SOIC*3.9x9.9mm*P1.27mm* SSOP*5.3x6.2mm*P0.65mm*; Datasheet: http://www.ti.com/lit/ds/symlink/cd74hc237.pdf; Description_: 3-to-8 line decoder/multiplexer with address latches, DIP-16/SOIC-16/SSOP-16
pins: 1 A0, 2 A1, 3 A2, 4 ~{{LE}}, 5 ~{{E1}}, 6 E2, 7 ~{{Y7}}, 8 GND, 9 ~{{Y6}}, 10 ~{{Y5}}, 11 ~{{Y4}}, 12 ~{{Y3}}, 13 ~{{Y2}}, 14 ~{{Y1}}, 15 ~{{Y0}}, 16 VCC

## 74HC138
designator *  value 74HC138  Reference: U
3-to-8 line decoder/multiplexer inverting, DIP-16/SOIC-16/SSOP-16; ki_keywords: demux; ki_fp_filters: DIP*W7.62mm* SOIC*3.9x9.9mm*P1.27mm* SSOP*5.3x6.2mm*P0.65mm*; Datasheet: http://www.ti.com/lit/ds/symlink/cd74hc238.pdf; Description_: 3-to-8 line decoder/multiplexer inverting, DIP-16/SOIC-16/SSOP-16
pins: 1 A0, 2 A1, 3 A2, 4 ~{{E0}}, 5 ~{{E1}}, 6 E2, 7 ~{{Y7}}, 8 GND, 9 ~{{Y6}}, 10 ~{{Y5}}, 11 ~{{Y4}}, 12 ~{{Y3}}, 13 ~{{Y2}}, 14 ~{{Y1}}, 15 ~{{Y0}}, 16 VCC

## 74HC164
designator *  value 74HC164  Reference: U
8-bit serial-in parallel-out shift register; ki_keywords: 8-bit shift register; ki_fp_filters: SOIC*3.9x8.7*P1.27mm* ?SSOP*P0.65mm* DIP*W7.62mm*; Datasheet: https://assets.nexperia.com/documents/data-sheet/74HC_HCT164.pdf; Description_: 8-bit serial-in parallel-out shift register
pins: 1 DSA, 2 DSB, 3 Q0, 4 Q1, 5 Q2, 6 Q3, 7 GND, 8 CP, 9 ~{{MR}}, 10 Q4, 11 Q5, 12 Q6, 13 Q7, 14 VCC

## 74HC165
designator *  value 74HC165  Reference: U
Shift Register, 8-bit, Parallel Load; ki_keywords: 8 bit shift register parallel load cmos; ki_fp_filters: DIP?16* SO*16*3.9x9.9mm*P1.27mm* SSOP*16*5.3x6.2mm*P0.65mm* TSSOP*16*4.4x5mm*P0.65*; Datasheet: https://assets.nexperia.com/documents/data-sheet/74HC_HCT165.pdf; Description_: Shift Register, 8-bit, Parallel Load
pins: 1 ~{{PL}}, 2 CP, 3 D4, 4 D5, 5 D6, 6 D7, 7 ~{{Q7}}, 8 GND, 9 Q7, 10 DS, 11 D0, 12 D1, 13 D2, 14 D3, 15 ~{{CE}}, 16 VCC

## 74HC173
designator *  value 74HC173  Reference: U
4-bit D-type Register, 3 state out; ki_keywords: TTL REG REG4 3State DFF; ki_fp_filters: DIP*W7.62* SOIC*3.9*9.9mm*P1.27mm* TSSOP*4.4*5mm*P0.65mm*; Datasheet: https://www.ti.com/lit/ds/symlink/cd74hc173.pdf; Description_: 4-bit D-type Register, 3 state out
pins: 1 Oe1, 2 Oe2, 3 Q0, 4 Q1, 5 Q2, 6 Q3, 7 Cp, 8 GND, 9 E1, 10 E2, 11 D3, 12 D2, 13 D1, 14 D0, 15 Mr, 16 VCC

## 74HC192
designator *  value 74HC192  Reference: U
Synchronous 4-bit Up/Down (2 clk) counter; ki_keywords: TTL CNT CNT4; ki_fp_filters: SOIC*3.9x9.9mm*P1.27mm* DIP*W7.62mm* SO*3.9*9.9*P1.27mm* TSSOP*4.4*5mm*P0.65*; Datasheet: https://www.ti.com/lit/ds/symlink/cd74hc192.pdf; Description_: Synchronous 4-bit Up/Down (2 clk) counter
pins: 1 B, 2 QB, 3 QA, 4 DOWN, 5 UP, 6 QC, 7 QD, 8 GND, 9 D, 10 C, 11 ~{{LOAD}}, 12 ~{{CO}}, 13 ~{{BO}}, 14 CLR, 15 A, 16 VCC

## 74HC193
designator *  value 74HC193  Reference: U
Synchronous 4-bit Up/Down (2 clk) counter; ki_keywords: TTL CNT CNT4; ki_fp_filters: SOIC*3.9x9.9mm*P1.27mm* DIP*W7.62mm* SO*3.9*9.9mm*P1.27mm* TSSOP*4.4*5mm*P0.65mm*; Datasheet: https://assets.nexperia.com/documents/data-sheet/74HC_HCT193.pdf; Description_: Synchronous 4-bit Up/Down (2 clk) counter
pins: 1 B, 2 QB, 3 QA, 4 DOWN, 5 UP, 6 QC, 7 QD, 8 GND, 9 D, 10 C, 11 ~{{LOAD}}, 12 ~{{CO}}, 13 ~{{BO}}, 14 CLR, 15 A, 16 VCC

## 74HC237
designator *  value 74HC237  Reference: U
3-to-8 line decoder/multiplexer with address latches, DIP-16/SOIC-16/SSOP-16; ki_keywords: demux; ki_fp_filters: DIP*W7.62mm* SOIC*3.9x9.9mm*P1.27mm* SSOP*5.3x6.2mm*P0.65mm*; Datasheet: http://www.ti.com/lit/ds/symlink/cd74hc237.pdf; Description_: 3-to-8 line decoder/multiplexer with address latches, DIP-16/SOIC-16/SSOP-16
pins: 1 A0, 2 A1, 3 A2, 4 ~{{LE}}, 5 ~{{E1}}, 6 E2, 7 Y7, 8 GND, 9 Y6, 10 Y5, 11 Y4, 12 Y3, 13 Y2, 14 Y1, 15 Y0, 16 VCC

## 74HC238
designator *  value 74HC238  Reference: U
3-to-8 line decoder/multiplexer, DIP-16/SOIC-16/SSOP-16; ki_keywords: demux; ki_fp_filters: DIP*W7.62mm* SOIC*3.9x9.9mm*P1.27mm* TSSOP*4.4x5mm*P0.65mm*; Datasheet: https://www.ti.com/lit/ds/symlink/cd74hc238.pdf; Description_: 3-to-8 line decoder/multiplexer, DIP-16/SOIC-16/SSOP-16
pins: 1 A0, 2 A1, 3 A2, 4 ~{{E1}}, 5 ~{{E2}}, 6 E3, 7 Y7, 8 GND, 9 Y6, 10 Y5, 11 Y4, 12 Y3, 13 Y2, 14 Y1, 15 Y0, 16 VCC

## 74HC240
designator *  value 74HC240  Reference: U
8-bit Buffer/Line Driver 3-state Inverting; ki_keywords: HCMOS BUFFER 3State inv; ki_fp_filters: DIP*W7.62mm* SOIC*7.5x12.8mm*P1.27mm* TSSOP*4.4x6.5mm*P0.65mm* SSOP*4.4x6.5mm*P0.65mm*; Datasheet: https://assets.nexperia.com/documents/data-sheet/74HC_HCT240.pdf; Description_: 8-bit Buffer/Line Driver 3-state Inverting
pins: 1 1OE, 2 1A0, 3 2Y0, 4 1A1, 5 2Y1, 6 1A2, 7 2Y2, 8 1A3, 9 2Y3, 10 GND, 11 2A3, 12 1Y3, 13 2A2, 14 1Y2, 15 2A1, 16 1Y1, 17 2A0, 18 1Y0, 19 2OE, 20 VCC

## 74HC244
designator *  value 74HC244  Reference: U
8-bit Buffer/Line Driver 3-state; ki_keywords: HCMOS BUFFER 3State; ki_fp_filters: TSSOP*4.4x6.5mm*P0.65mm* SSOP*4.4x6.5mm*P0.65mm*; Datasheet: https://assets.nexperia.com/documents/data-sheet/74HC_HCT244.pdf; Description_: 8-bit Buffer/Line Driver 3-state
pins: 1 1OE, 2 1A0, 3 2Y0, 4 1A1, 5 2Y1, 6 1A2, 7 2Y2, 8 1A3, 9 2Y3, 10 GND, 11 2A3, 12 1Y3, 13 2A2, 14 1Y2, 15 2A1, 16 1Y1, 17 2A0, 18 1Y0, 19 2OE, 20 VCC

## 74HC245
designator *  value 74HC245  Reference: U
Octal BUS Transceivers, 3-State outputs; ki_keywords: HCMOS BUS 3State; ki_fp_filters: DIP?20*; Datasheet: http://www.ti.com/lit/gpn/sn74HC245; Description_: Octal BUS Transceivers, 3-State outputs
pins: 1 A->B, 2 A0, 3 A1, 4 A2, 5 A3, 6 A4, 7 A5, 8 A6, 9 A7, 10 GND, 11 B7, 12 B6, 13 B5, 14 B4, 15 B3, 16 B2, 17 B1, 18 B0, 19 CE, 20 VCC

## 74HC273
designator *  value 74HC273  Reference: U
8-bit D Flip-Flop, reset; ki_keywords: HCMOS DFF DFF8; ki_fp_filters: DIP?20* SO?20* SOIC?20*; Datasheet: https://assets.nexperia.com/documents/data-sheet/74HC_HCT273.pdf; Description_: 8-bit D Flip-Flop, reset
pins: 1 ~{{Mr}}, 2 Q0, 3 D0, 4 D1, 5 Q1, 6 Q2, 7 D2, 8 D3, 9 Q3, 10 GND, 11 Cp, 12 Q4, 13 D4, 14 D5, 15 Q5, 16 Q6, 17 D6, 18 D7, 19 Q7, 20 VCC

## 74HC373
designator *  value 74HC373  Reference: U
8-bit Latch, 3-state outputs; ki_keywords: HCMOS REG DFF DFF8 LATCH; ki_fp_filters: DIP?20* SOIC?20* SO?20* SSOP?20* TSSOP?20*; Datasheet: https://www.ti.com/lit/ds/symlink/cd54hc373.pdf; Description_: 8-bit Latch, 3-state outputs
pins: 1 OE, 2 O0, 3 D0, 4 D1, 5 O1, 6 O2, 7 D2, 8 D3, 9 O3, 10 GND, 11 LE, 12 O4, 13 D4, 14 D5, 15 O5, 16 O6, 17 D6, 18 D7, 19 O7, 20 VCC

## 74HC374
designator *  value 74HC374  Reference: U
8-bit Register, 3-state outputs; ki_keywords: HCMOS DFF DFF8 REG 3State; ki_fp_filters: DIP?20* SOIC?20* SO?20*; Datasheet: https://www.ti.com/lit/ds/symlink/cd74hct374.pdf; Description_: 8-bit Register, 3-state outputs
pins: 1 OE, 2 O0, 3 D0, 4 D1, 5 O1, 6 O2, 7 D2, 8 D3, 9 O3, 10 GND, 11 Cp, 12 O4, 13 D4, 14 D5, 15 O5, 16 O6, 17 D6, 18 D7, 19 O7, 20 VCC

## 74HC590
designator *  value 74HC590  Reference: U
8-bit Binary Counter with Output Register 3-State Outputs, SOIC-16/TSSOP-16; ki_keywords: HCMOS Counter 3State; ki_fp_filters: DIP*W7.62mm* SOIC*3.9x9.9mm*P1.27mm* TSSOP*4.4x5mm*P0.65mm* SOIC*5.3x10.2mm*P1.27mm* SOIC*7.5x10.3mm*P1.27mm*; Datasheet: https://assets.nexperia.com/documents/data-sheet/74HC590.pdf; Description_: 8-bit Binary Counter with Output Register 3-State Outputs, SOIC-16/TSSOP-16
pins: 1 Q1, 2 Q2, 3 Q3, 4 Q4, 5 Q5, 6 Q6, 7 Q7, 8 GND, 9 ~{{RCO}}, 10 ~{{MRC}}, 11 CPC, 12 ~{{CE}}, 13 CPR, 14 ~{{OE}}, 15 Q0, 16 VCC

## 74HC590A
designator *  value 74HC590A  Reference: U
8-bit Binary Counter with Output Register 3-State Outputs, DIP-16/SOIC-16/SOIC-16W; ki_keywords: HCMOS Counter 3State; ki_fp_filters: DIP*W7.62mm* SOIC*3.9x9.9mm*P1.27mm* TSSOP*4.4x5mm*P0.65mm* SOIC*5.3x10.2mm*P1.27mm* SOIC*7.5x10.3mm*P1.27mm*; Datasheet: http://www.ti.com/lit/ds/symlink/sn74hc590a.pdf; Description_: 8-bit Binary Counter with Output Register 3-State Outputs, DIP-16/SOIC-16/SOIC-16W
pins: 1 Q1, 2 Q2, 3 Q3, 4 Q4, 5 Q5, 6 Q6, 7 Q7, 8 GND, 9 ~{{RCO}}, 10 ~{{MRC}}, 11 CPC, 12 ~{{CE}}, 13 CPR, 14 ~{{OE}}, 15 Q0, 16 VCC

## 74HC594
designator *  value 74HC594  Reference: U
8-Bit Shift Registers With Output Registers; ki_keywords: HCMOS SR; ki_fp_filters: DIP*W7.62mm* SOIC*3.9x9.9mm*P1.27mm* TSSOP*4.4x5mm*P0.65mm* SOIC*5.3x10.2mm*P1.27mm* SOIC*7.5x10.3mm*P1.27mm*; Datasheet: https://www.ti.com/lit/ds/symlink/sn74hc594.pdf; Description_: 8-Bit Shift Registers With Output Registers
pins: 1 QB, 2 QC, 3 QD, 4 QE, 5 QF, 6 QG, 7 QH, 8 GND, 9 QH', 10 ~{{SRCLR}}, 11 SRCLK, 12 RCLK, 13 ~{{RCLR}}, 14 SER, 15 QA, 16 VCC

## 74HC595
designator *  value 74HC595  Reference: U
8-bit serial in/out Shift Register 3-State Outputs; ki_keywords: HCMOS SR 3State; ki_fp_filters: DIP*W7.62mm* SOIC*3.9x9.9mm*P1.27mm* TSSOP*4.4x5mm*P0.65mm* SOIC*5.3x10.2mm*P1.27mm* SOIC*7.5x10.3mm*P1.27mm*; Datasheet: http://www.ti.com/lit/ds/symlink/sn74hc595.pdf; Description_: 8-bit serial in/out Shift Register 3-State Outputs
pins: 1 QB, 2 QC, 3 QD, 4 QE, 5 QF, 6 QG, 7 QH, 8 GND, 9 QH', 10 ~{{SRCLR}}, 11 SRCLK, 12 RCLK, 13 ~{{OE}}, 14 SER, 15 QA, 16 VCC

## 74HC596
designator *  value 74HC596  Reference: U
8-bit serial in/out Shift Register Open Collector Outputs; ki_keywords: HCMOS SR OpenCollector; ki_fp_filters: DIP*W7.62mm* SOIC*3.9x9.9mm*P1.27mm* TSSOP*4.4x5mm*P0.65mm* SOIC*5.3x10.2mm*P1.27mm* SOIC*7.5x10.3mm*P1.27mm*; Datasheet: https://assets.nexperia.com/documents/data-sheet/74HC_HCT595.pdf; Description_: 8-bit serial in/out Shift Register Open Collector Outputs
pins: 1 QB, 2 QC, 3 QD, 4 QE, 5 QF, 6 QG, 7 QH, 8 GND, 9 QH', 10 ~{{SRCLR}}, 11 SRCLK, 12 RCLK, 13 ~{{OE}}, 14 SER, 15 QA, 16 VCC

## 74HC688
designator *  value 74HC688  Reference: U
8-bit magnitude comparator; ki_keywords: HCMOS DECOD Arith; ki_fp_filters: DIP?20* SOIC?20* SO?20* TSSOP?20*; Datasheet: https://www.ti.com/lit/ds/symlink/cd54hc688.pdf; Description_: 8-bit magnitude comparator
pins: 1 G, 2 P0, 3 R0, 4 P1, 5 R1, 6 P2, 7 R2, 8 P3, 9 R3, 10 GND, 11 P4, 12 R4, 13 P5, 14 R5, 15 P6, 16 R6, 17 P7, 18 R7, 19 P=R, 20 VCC

## 74HC4024
designator *  value 74HC4024  Reference: U
7-stage binary ripple counter, SOIC-14; ki_keywords: binary counter; ki_fp_filters: SOIC*3.9x8.7mm*P1.27mm*; Footprint: Package_SO:SOIC-14_3.9x8.7mm_P1.27mm; Datasheet: https://assets.nexperia.com/documents/data-sheet/74HC4024.pdf; Description_: 7-stage binary ripple counter, SOIC-14
pins: 1 ~{{CP}}, 2 MR, 3 Q6, 4 Q5, 5 Q4, 6 Q3, 7 GND, 8, 9 Q2, 10, 11 Q1, 12 Q0, 13, 14 VCC

## 74HC4051
designator *  value 74HC4051  Reference: U
8-channel analog multiplexer/demultiplexer, DIP-16/SOIC-16/TSSOP-16; ki_keywords: HCMOS Multiplexer Demultiplexer Analog; ki_fp_filters: DIP*W7.62mm* SOIC*3.9x9.9mm*P1.27mm* SOIC*5.3x10.2mm*P1.27mm* TSSOP*4.4x5mm*P0.65mm*; Datasheet: http://www.ti.com/lit/ds/symlink/cd74hc4051.pdf; Description_: 8-channel analog multiplexer/demultiplexer, DIP-16/SOIC-16/TSSOP-16
pins: 1 A4, 2 A6, 3 A, 4 A7, 5 A5, 6 ~{{E}}, 7 VEE, 8 GND, 9 S2, 10 S1, 11 S0, 12 A3, 13 A0, 14 A1, 15 A2, 16 VCC

## 74HC4060
designator *  value 74HC4060  Reference: U
Binary counter (14-stages) and oscillator; ki_keywords: binary counter oscillator; ki_fp_filters: DIP?16*7.62* TSSOP*16*4.4x5* SOIC*16*3.9x9.9*; Datasheet: https://www.st.com/resource/en/datasheet/m74hc4060.pdf; Description_: Binary counter (14-stages) and oscillator
pins: 1 Q12, 2 Q13, 3 Q14, 4 Q6, 5 Q5, 6 Q7, 7 Q4, 8 VSS, 9 ~{{Φ0}}, 10 Φ0, 11 ~{{Φ1}}, 12 CLR, 13 Q9, 14 Q8, 15 Q10, 16 VDD

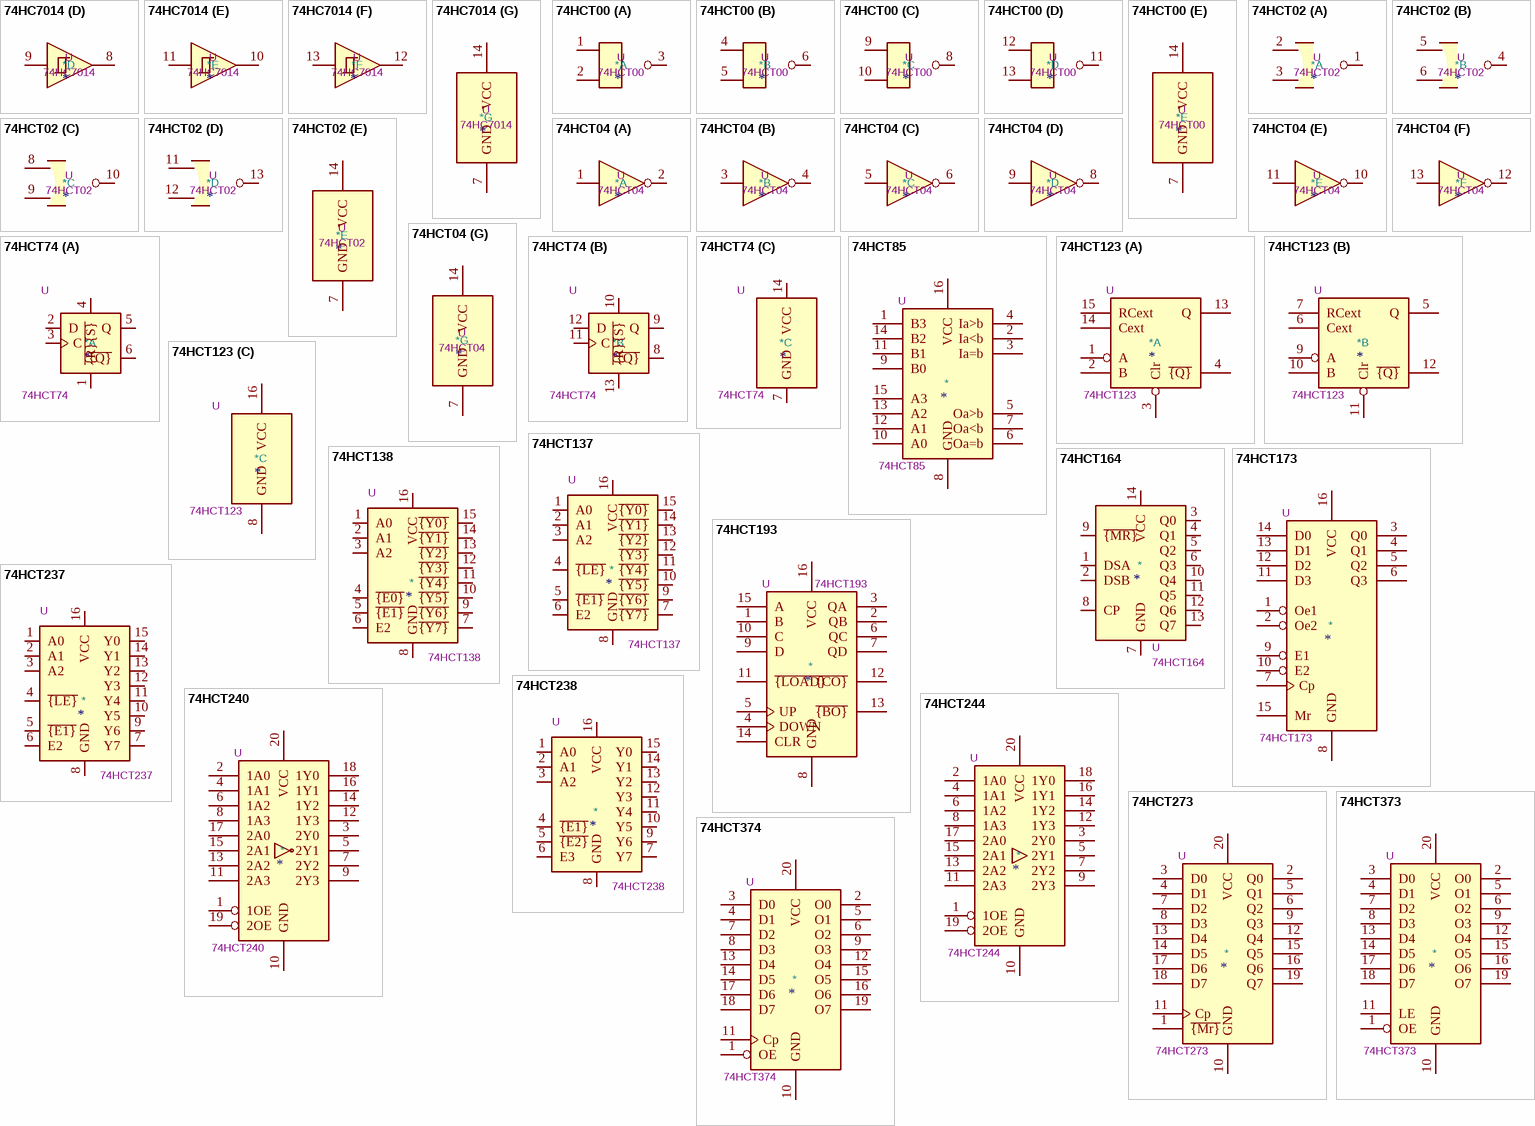
[diagram p3: symbols 74HC7014 to 74HCT374]

## 74HC7014
designator *  value 74HC7014  Reference: U
Hex non-inverting buffer with precision Schmitt Trigger inputs, SOIC-14; ki_keywords: Hex non-inverting Schmitt buffer; ki_fp_filters: SOIC*3.9x8.7mm*P1.27mm*; Footprint: Package_SO:SOIC-14_3.9x8.7mm_P1.27mm; Datasheet: https://assets.nexperia.com/documents/data-sheet/74HC7014.pdf; Description_: Hex non-inverting buffer with precision Schmitt Trigger inputs, SOIC-14
part A pins: 1, 2
part B pins: 3, 4
part C pins: 5, 6
part D pins: 8, 9
part E pins: 10, 11
part F pins: 12, 13
part G pins: 7 GND, 14 VCC

## 74HCT00
designator *  value 74HCT00  Reference: U
quad 2-input NAND gate; ki_keywords: HCTMOS nand 2-input; ki_fp_filters: DIP*W7.62mm* SO14*; Datasheet: http://www.ti.com/lit/gpn/sn74hct00; Description_: quad 2-input NAND gate
part A pins: 1, 2, 3
part B pins: 4, 5, 6
part C pins: 8, 9, 10
part D pins: 11, 12, 13
part E pins: 7 GND, 14 VCC
1 alternate drawing of the same symbol

## 74HCT02
designator *  value 74HCT02  Reference: U
quad 2-input NOR gate; ki_keywords: HCTMOS Nor2; ki_fp_filters: SO14* DIP*W7.62mm*; Datasheet: http://www.ti.com/lit/gpn/sn74hct02; Description_: quad 2-input NOR gate
part A pins: 1, 2, 3
part B pins: 4, 5, 6
part C pins: 8, 9, 10
part D pins: 11, 12, 13
part E pins: 7 GND, 14 VCC
1 alternate drawing of the same symbol

## 74HCT04
designator *  value 74HCT04  Reference: U
Hex Inverter; ki_keywords: HCTMOS not inv; ki_fp_filters: DIP*W7.62mm* SSOP?14* TSSOP?14*; Datasheet: https://assets.nexperia.com/documents/data-sheet/74HC_HCT04.pdf; Description_: Hex Inverter
part A pins: 1, 2
part B pins: 3, 4
part C pins: 5, 6
part D pins: 8, 9
part E pins: 10, 11
part F pins: 12, 13
part G pins: 7 GND, 14 VCC

## 74HCT74
designator *  value 74HCT74  Reference: U
Dual D Flip-flop, Set & Reset; ki_keywords: TTL DFF; ki_fp_filters: SO*3.9x8.65mm_P1.27mm* TSSOP*4.4x5mm_P0.65mm* DHVQFN*2.5x3mm_P0.5mm*; Datasheet: https://assets.nexperia.com/documents/data-sheet/74HC_HCT74.pdf; Description_: Dual D Flip-flop, Set & Reset
part A pins: 1 ~{{R}}, 2 D, 3 C, 4 ~{{S}}, 5 Q, 6 ~{{Q}}
part B pins: 8 ~{{Q}}, 9 Q, 10 ~{{S}}, 11 C, 12 D, 13 ~{{R}}
part C pins: 7 GND, 14 VCC

## 74HCT85
designator *  value 74HCT85  Reference: U
4-bit Comparator; ki_keywords: TTL COMP ARITH; ki_fp_filters: DIP?16* SO*3.9*9.9mm*P1.27mm*; Datasheet: https://assets.nexperia.com/documents/data-sheet/74HC_HCT85.pdf; Description_: 4-bit Comparator
pins: 1 B3, 2 Ia<b, 3 Ia=b, 4 Ia>b, 5 Oa>b, 6 Oa=b, 7 Oa<b, 8 GND, 9 B0, 10 A0, 11 B1, 12 A1, 13 A2, 14 B2, 15 A3, 16 VCC

## 74HCT123
designator *  value 74HCT123  Reference: U
Dual retriggerable monostable multivibrator; ki_keywords: TTL monostable, multivibrator; ki_fp_filters: DIP?16*; Datasheet: https://assets.nexperia.com/documents/data-sheet/74HC_HCT123.pdf; Description_: Dual retriggerable monostable multivibrator
part A pins: 1 A, 2 B, 3 Clr, 4 ~{{Q}}, 13 Q, 14 Cext, 15 RCext
part B pins: 5 Q, 6 Cext, 7 RCext, 9 A, 10 B, 11 Clr, 12 ~{{Q}}
part C pins: 8 GND, 16 VCC

## 74HCT137
designator *  value 74HCT137  Reference: U
3-to-8 line decoder/multiplexer with address latches, DIP-16/SOIC-16/SSOP-16; ki_keywords: demux; ki_fp_filters: DIP*W7.62mm* SOIC*3.9x9.9mm*P1.27mm* SSOP*5.3x6.2mm*P0.65mm*; Datasheet: http://www.ti.com/lit/ds/symlink/cd74hc237.pdf; Description_: 3-to-8 line decoder/multiplexer with address latches, DIP-16/SOIC-16/SSOP-16
pins: 1 A0, 2 A1, 3 A2, 4 ~{{LE}}, 5 ~{{E1}}, 6 E2, 7 ~{{Y7}}, 8 GND, 9 ~{{Y6}}, 10 ~{{Y5}}, 11 ~{{Y4}}, 12 ~{{Y3}}, 13 ~{{Y2}}, 14 ~{{Y1}}, 15 ~{{Y0}}, 16 VCC

## 74HCT138
designator *  value 74HCT138  Reference: U
3-to-8 line decoder/multiplexer inverting, DIP-16/SOIC-16/SSOP-16; ki_keywords: demux; ki_fp_filters: DIP*W7.62mm* SOIC*3.9x9.9mm*P1.27mm* SSOP*5.3x6.2mm*P0.65mm*; Datasheet: http://www.ti.com/lit/ds/symlink/cd74hc238.pdf; Description_: 3-to-8 line decoder/multiplexer inverting, DIP-16/SOIC-16/SSOP-16
pins: 1 A0, 2 A1, 3 A2, 4 ~{{E0}}, 5 ~{{E1}}, 6 E2, 7 ~{{Y7}}, 8 GND, 9 ~{{Y6}}, 10 ~{{Y5}}, 11 ~{{Y4}}, 12 ~{{Y3}}, 13 ~{{Y2}}, 14 ~{{Y1}}, 15 ~{{Y0}}, 16 VCC

## 74HCT164
designator *  value 74HCT164  Reference: U
8-bit serial-in parallel-out shift register; ki_keywords: 8-bit shift register; ki_fp_filters: SOIC*3.9x8.7*P1.27mm* ?SSOP*P0.65mm* DIP*W7.62mm*; Datasheet: https://assets.nexperia.com/documents/data-sheet/74HC_HCT164.pdf; Description_: 8-bit serial-in parallel-out shift register
pins: 1 DSA, 2 DSB, 3 Q0, 4 Q1, 5 Q2, 6 Q3, 7 GND, 8 CP, 9 ~{{MR}}, 10 Q4, 11 Q5, 12 Q6, 13 Q7, 14 VCC

## 74HCT173
designator *  value 74HCT173  Reference: U
4-bit D-type Register, 3 state out; ki_keywords: TTL REG REG4 3State DFF; ki_fp_filters: DIP*W7.62* SOIC*3.9*9.9mm*P1.27mm* TSSOP*4.4*5mm*P0.65mm*; Datasheet: https://www.ti.com/lit/ds/symlink/cd74hc173.pdf; Description_: 4-bit D-type Register, 3 state out
pins: 1 Oe1, 2 Oe2, 3 Q0, 4 Q1, 5 Q2, 6 Q3, 7 Cp, 8 GND, 9 E1, 10 E2, 11 D3, 12 D2, 13 D1, 14 D0, 15 Mr, 16 VCC

## 74HCT193
designator *  value 74HCT193  Reference: U
Synchronous 4-bit Up/Down (2 clk) counter; ki_keywords: TTL CNT CNT4; ki_fp_filters: SOIC*3.9x9.9mm*P1.27mm* DIP*W7.62mm* SO*3.9*9.9mm*P1.27mm* TSSOP*4.4*5mm*P0.65mm*; Datasheet: https://assets.nexperia.com/documents/data-sheet/74HC_HCT193.pdf; Description_: Synchronous 4-bit Up/Down (2 clk) counter
pins: 1 B, 2 QB, 3 QA, 4 DOWN, 5 UP, 6 QC, 7 QD, 8 GND, 9 D, 10 C, 11 ~{{LOAD}}, 12 ~{{CO}}, 13 ~{{BO}}, 14 CLR, 15 A, 16 VCC

## 74HCT237
designator *  value 74HCT237  Reference: U
3-to-8 line decoder/multiplexer with address latches, DIP-16/SOIC-16/SSOP-16; ki_keywords: demux; ki_fp_filters: DIP*W7.62mm* SOIC*3.9x9.9mm*P1.27mm* SSOP*5.3x6.2mm*P0.65mm*; Datasheet: http://www.ti.com/lit/ds/symlink/cd74hc237.pdf; Description_: 3-to-8 line decoder/multiplexer with address latches, DIP-16/SOIC-16/SSOP-16
pins: 1 A0, 2 A1, 3 A2, 4 ~{{LE}}, 5 ~{{E1}}, 6 E2, 7 Y7, 8 GND, 9 Y6, 10 Y5, 11 Y4, 12 Y3, 13 Y2, 14 Y1, 15 Y0, 16 VCC

## 74HCT238
designator *  value 74HCT238  Reference: U
3-to-8 line decoder/multiplexer, DIP-16/SOIC-16/SSOP-16; ki_keywords: demux; ki_fp_filters: DIP*W7.62mm* SOIC*3.9x9.9mm*P1.27mm* TSSOP*4.4x5mm*P0.65mm*; Datasheet: https://www.ti.com/lit/ds/symlink/cd74hc238.pdf; Description_: 3-to-8 line decoder/multiplexer, DIP-16/SOIC-16/SSOP-16
pins: 1 A0, 2 A1, 3 A2, 4 ~{{E1}}, 5 ~{{E2}}, 6 E3, 7 Y7, 8 GND, 9 Y6, 10 Y5, 11 Y4, 12 Y3, 13 Y2, 14 Y1, 15 Y0, 16 VCC

## 74HCT240
designator *  value 74HCT240  Reference: U
8-bit buffer; 3-state; inverting; ki_keywords: HCTMOS BUFFER 3State inv; ki_fp_filters: DIP*W7.62mm* SOIC*7.5x12.8mm*P1.27mm* TSSOP*4.4x6.5mm*P0.65mm* SSOP*4.4x6.5mm*P0.65mm*; Datasheet: https://assets.nexperia.com/documents/data-sheet/74HC_HCT240.pdf; Description_: 8-bit buffer; 3-state; inverting
pins: 1 1OE, 2 1A0, 3 2Y0, 4 1A1, 5 2Y1, 6 1A2, 7 2Y2, 8 1A3, 9 2Y3, 10 GND, 11 2A3, 12 1Y3, 13 2A2, 14 1Y2, 15 2A1, 16 1Y1, 17 2A0, 18 1Y0, 19 2OE, 20 VCC

## 74HCT244
designator *  value 74HCT244  Reference: U
8-bit Buffer/Line Driver 3-state; ki_keywords: HCTMOS BUFFER 3State; ki_fp_filters: TSSOP*4.4x6.5mm*P0.65mm* SSOP*4.4x6.5mm*P0.65mm*; Datasheet: https://assets.nexperia.com/documents/data-sheet/74HC_HCT244.pdf; Description_: 8-bit Buffer/Line Driver 3-state
pins: 1 1OE, 2 1A0, 3 2Y0, 4 1A1, 5 2Y1, 6 1A2, 7 2Y2, 8 1A3, 9 2Y3, 10 GND, 11 2A3, 12 1Y3, 13 2A2, 14 1Y2, 15 2A1, 16 1Y1, 17 2A0, 18 1Y0, 19 2OE, 20 VCC

## 74HCT273
designator *  value 74HCT273  Reference: U
8-bit D Flip-Flop, reset; ki_keywords: HCTMOS DFF DFF8; ki_fp_filters: DIP?20* SO?20* SOIC?20*; Datasheet: https://assets.nexperia.com/documents/data-sheet/74HC_HCT273.pdf; Description_: 8-bit D Flip-Flop, reset
pins: 1 ~{{Mr}}, 2 Q0, 3 D0, 4 D1, 5 Q1, 6 Q2, 7 D2, 8 D3, 9 Q3, 10 GND, 11 Cp, 12 Q4, 13 D4, 14 D5, 15 Q5, 16 Q6, 17 D6, 18 D7, 19 Q7, 20 VCC

## 74HCT373
designator *  value 74HCT373  Reference: U
8-bit Latch, 3-state outputs; ki_keywords: HCTMOS REG DFF DFF8 LATCH; ki_fp_filters: DIP?20* SOIC?20* SO?20* SSOP?20* TSSOP?20*; Datasheet: https://www.ti.com/lit/ds/symlink/sn74hct373.pdf; Description_: 8-bit Latch, 3-state outputs
pins: 1 OE, 2 O0, 3 D0, 4 D1, 5 O1, 6 O2, 7 D2, 8 D3, 9 O3, 10 GND, 11 LE, 12 O4, 13 D4, 14 D5, 15 O5, 16 O6, 17 D6, 18 D7, 19 O7, 20 VCC

## 74HCT374
designator *  value 74HCT374  Reference: U
8-bit Register, 3-state outputs; ki_keywords: HCTMOS DFF DFF8 REG 3State; ki_fp_filters: DIP?20* SOIC?20* SO?20*; Datasheet: https://www.ti.com/lit/ds/symlink/cd74hct374.pdf; Description_: 8-bit Register, 3-state outputs
pins: 1 OE, 2 O0, 3 D0, 4 D1, 5 O1, 6 O2, 7 D2, 8 D3, 9 O3, 10 GND, 11 Cp, 12 O4, 13 D4, 14 D5, 15 O5, 16 O6, 17 D6, 18 D7, 19 O7, 20 VCC

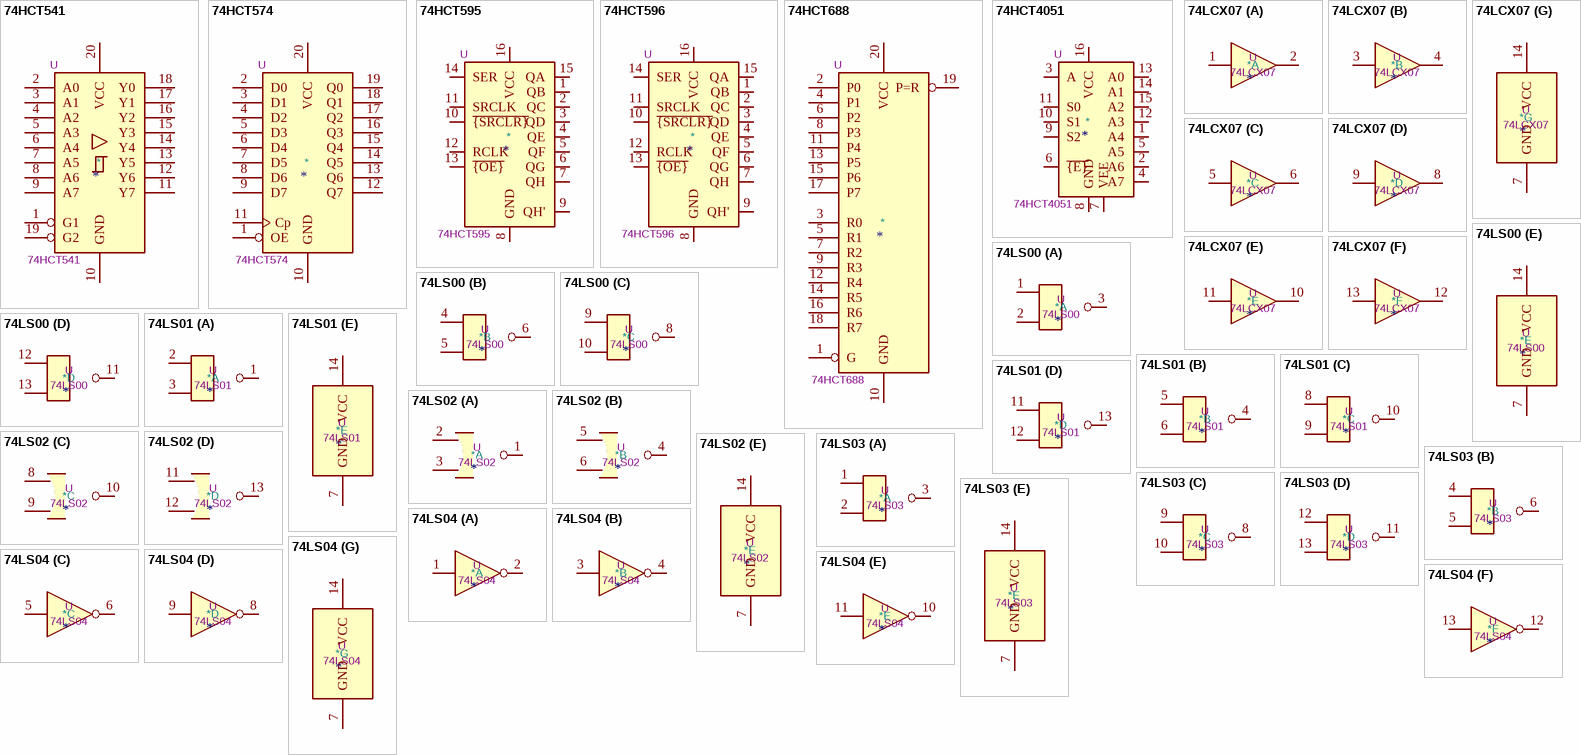
[diagram p4: symbols 74HCT541 to 74LS04]

## 74HCT541
designator *  value 74HCT541  Reference: U
8-bit Buffer/Line Driver 3-state outputs; ki_keywords: TTL BUFFER 3State BUS; ki_fp_filters: DIP?20*; Datasheet: http://www.ti.com/lit/gpn/sn74HCT541; Description_: 8-bit Buffer/Line Driver 3-state outputs
pins: 1 G1, 2 A0, 3 A1, 4 A2, 5 A3, 6 A4, 7 A5, 8 A6, 9 A7, 10 GND, 11 Y7, 12 Y6, 13 Y5, 14 Y4, 15 Y3, 16 Y2, 17 Y1, 18 Y0, 19 G2, 20 VCC

## 74HCT574
designator *  value 74HCT574  Reference: U
8-bit Register, 3-state outputs; ki_keywords: TTL REG DFF DFF8 3State; ki_fp_filters: DIP?20*; Datasheet: http://www.ti.com/lit/gpn/sn74HCT574; Description_: 8-bit Register, 3-state outputs
pins: 1 OE, 2 D0, 3 D1, 4 D2, 5 D3, 6 D4, 7 D5, 8 D6, 9 D7, 10 GND, 11 Cp, 12 Q7, 13 Q6, 14 Q5, 15 Q4, 16 Q3, 17 Q2, 18 Q1, 19 Q0, 20 VCC

## 74HCT595
designator *  value 74HCT595  Reference: U
8-bit serial in/out Shift Register 3-State Outputs; ki_keywords: HCTMOS SR 3State; ki_fp_filters: DIP*W7.62mm* SOIC*3.9x9.9mm*P1.27mm* TSSOP*4.4x5mm*P0.65mm* SOIC*5.3x10.2mm*P1.27mm* SOIC*7.5x10.3mm*P1.27mm*; Datasheet: https://assets.nexperia.com/documents/data-sheet/74HC_HCT595.pdf; Description_: 8-bit serial in/out Shift Register 3-State Outputs
pins: 1 QB, 2 QC, 3 QD, 4 QE, 5 QF, 6 QG, 7 QH, 8 GND, 9 QH', 10 ~{{SRCLR}}, 11 SRCLK, 12 RCLK, 13 ~{{OE}}, 14 SER, 15 QA, 16 VCC

## 74HCT596
designator *  value 74HCT596  Reference: U
8-bit serial in/out Shift Register Open Collector Outputs; ki_keywords: HCTMOS SR OpenCollector; ki_fp_filters: DIP*W7.62mm* SOIC*3.9x9.9mm*P1.27mm* TSSOP*4.4x5mm*P0.65mm* SOIC*5.3x10.2mm*P1.27mm* SOIC*7.5x10.3mm*P1.27mm*; Datasheet: https://assets.nexperia.com/documents/data-sheet/74HC_HCT595.pdf; Description_: 8-bit serial in/out Shift Register Open Collector Outputs
pins: 1 QB, 2 QC, 3 QD, 4 QE, 5 QF, 6 QG, 7 QH, 8 GND, 9 QH', 10 ~{{SRCLR}}, 11 SRCLK, 12 RCLK, 13 ~{{OE}}, 14 SER, 15 QA, 16 VCC

## 74HCT688
designator *  value 74HCT688  Reference: U
8-bit magnitude comparator; ki_keywords: HCTMOS DECOD Arith; ki_fp_filters: DIP?20* SOIC?20* SO?20* TSSOP?20*; Datasheet: https://www.ti.com/lit/ds/symlink/cd54hc688.pdf; Description_: 8-bit magnitude comparator
pins: 1 G, 2 P0, 3 R0, 4 P1, 5 R1, 6 P2, 7 R2, 8 P3, 9 R3, 10 GND, 11 P4, 12 R4, 13 P5, 14 R5, 15 P6, 16 R6, 17 P7, 18 R7, 19 P=R, 20 VCC

## 74HCT4051
designator *  value 74HCT4051  Reference: U
8-channel analog multiplexer/demultiplexer, DIP-16/SOIC-16/TSSOP-16; ki_keywords: TTL Multiplexer Demultiplexer Analog; ki_fp_filters: DIP*W7.62mm* SOIC*3.9x9.9mm*P1.27mm* SOIC*5.3x10.2mm*P1.27mm* TSSOP*4.4x5mm*P0.65mm*; Datasheet: http://www.ti.com/lit/ds/symlink/cd74hct4051.pdf; Description_: 8-channel analog multiplexer/demultiplexer, DIP-16/SOIC-16/TSSOP-16
pins: 1 A4, 2 A6, 3 A, 4 A7, 5 A5, 6 ~{{E}}, 7 VEE, 8 GND, 9 S2, 10 S1, 11 S0, 12 A3, 13 A0, 14 A1, 15 A2, 16 VCC

## 74LCX07
designator *  value 74LCX07  Reference: U
CMOS hex buffer (open drain) with 5V tolerant inputs; ki_fp_filters: SOIC*3.9x8.7mm*P1.27mm* TSSOP*4.4x5mm*P0.65mm* DIP*W7.62mm*; Datasheet: www.st.com/resource/en/datasheet/74lcx07.pdf; Description_: CMOS hex buffer (open drain) with 5V tolerant inputs; ki_keywords: CMOS hex buffer
part A pins: 1, 2
part B pins: 3, 4
part C pins: 5, 6
part D pins: 8, 9
part E pins: 10, 11
part F pins: 12, 13
part G pins: 7 GND, 14 VCC

## 74LS00
designator *  value 74LS00  Reference: U
quad 2-input NAND gate; ki_keywords: TTL nand 2-input; ki_fp_filters: DIP*W7.62mm* SO14*; Datasheet: http://www.ti.com/lit/gpn/sn74ls00; Description_: quad 2-input NAND gate
part A pins: 1, 2, 3
part B pins: 4, 5, 6
part C pins: 8, 9, 10
part D pins: 11, 12, 13
part E pins: 7 GND, 14 VCC
1 alternate drawing of the same symbol

## 74LS01
designator *  value 74LS01  Reference: U
quad 2-input NAND gate, open collector outputs NRND; ki_keywords: TTL nand 2-input open collector; ki_fp_filters: DIP*W7.62mm*; Datasheet: http://www.nteinc.com/specs/7400to7499/pdf/nte74LS01.pdf; Description_: quad 2-input NAND gate, open collector outputs NRND
part A pins: 1, 2, 3
part B pins: 4, 5, 6
part C pins: 8, 9, 10
part D pins: 11, 12, 13
part E pins: 7 GND, 14 VCC
1 alternate drawing of the same symbol

## 74LS02
designator *  value 74LS02  Reference: U
quad 2-input NOR gate; ki_keywords: TTL Nor2; ki_fp_filters: SO14* DIP*W7.62mm*; Datasheet: http://www.ti.com/lit/gpn/sn74ls02; Description_: quad 2-input NOR gate
part A pins: 1, 2, 3
part B pins: 4, 5, 6
part C pins: 8, 9, 10
part D pins: 11, 12, 13
part E pins: 7 GND, 14 VCC
1 alternate drawing of the same symbol

## 74LS03
designator *  value 74LS03  Reference: U
Quad 2-input NAND open collector; ki_keywords: TTL Nand2 OpenColl; ki_fp_filters: DIP*W7.62mm**; Datasheet: http://www.ti.com/lit/gpn/sn74LS03; Description_: Quad 2-input NAND open collector
part A pins: 1, 2, 3
part B pins: 4, 5, 6
part C pins: 8, 9, 10
part D pins: 11, 12, 13
part E pins: 7 GND, 14 VCC
1 alternate drawing of the same symbol

## 74LS04
designator *  value 74LS04  Reference: U
Hex Inverter; ki_keywords: TTL not inv; ki_fp_filters: DIP*W7.62mm* SSOP?14* TSSOP?14*; Datasheet: http://www.ti.com/lit/gpn/sn74LS04; Description_: Hex Inverter
part A pins: 1, 2
part B pins: 3, 4
part C pins: 5, 6
part D pins: 8, 9
part E pins: 10, 11
part F pins: 12, 13
part G pins: 7 GND, 14 VCC

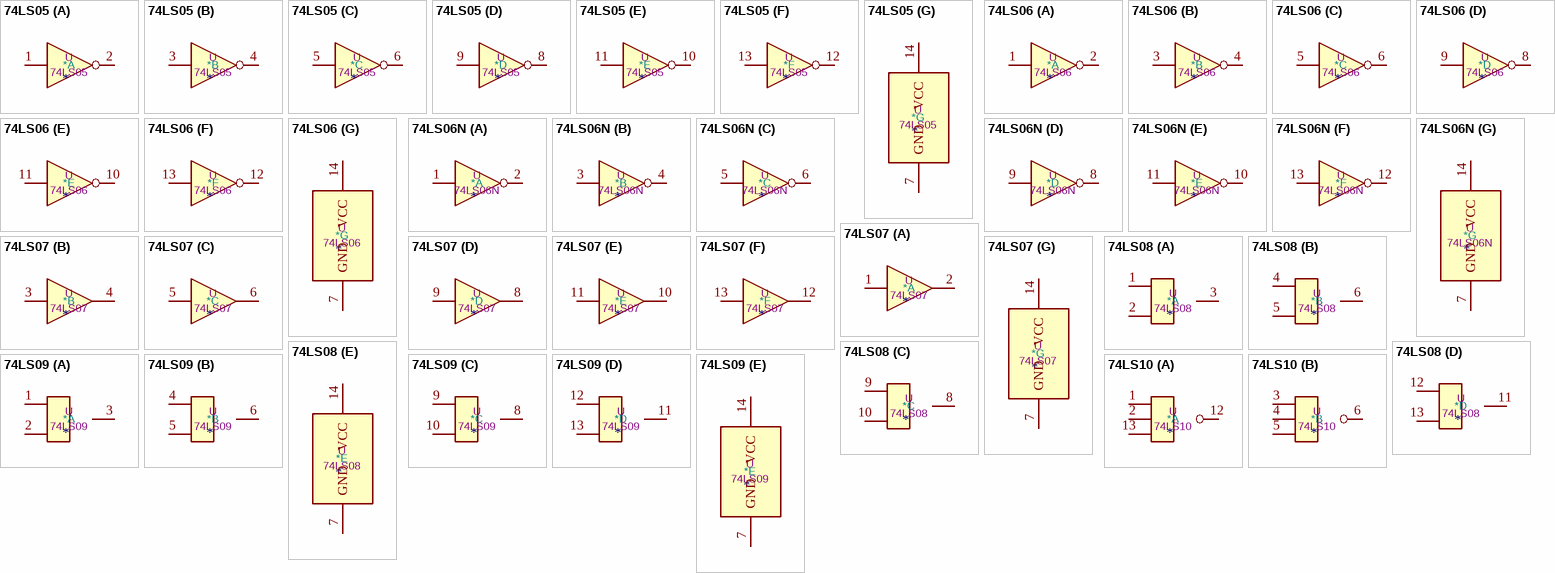
[diagram p5: symbols 74LS05 to 74LS10]

## 74LS05
designator *  value 74LS05  Reference: U
Inverter Open Collect; ki_keywords: TTL not inv OpenCol; ki_fp_filters: DIP*W7.62mm*; Datasheet: http://www.ti.com/lit/gpn/sn74LS05; Description_: Inverter Open Collect
part A pins: 1, 2
part B pins: 3, 4
part C pins: 5, 6
part D pins: 8, 9
part E pins: 10, 11
part F pins: 12, 13
part G pins: 7 GND, 14 VCC